# Altium schematic symbol library Apalis Evaluation Board.SchLib: 310 symbols (part 2 of 3)
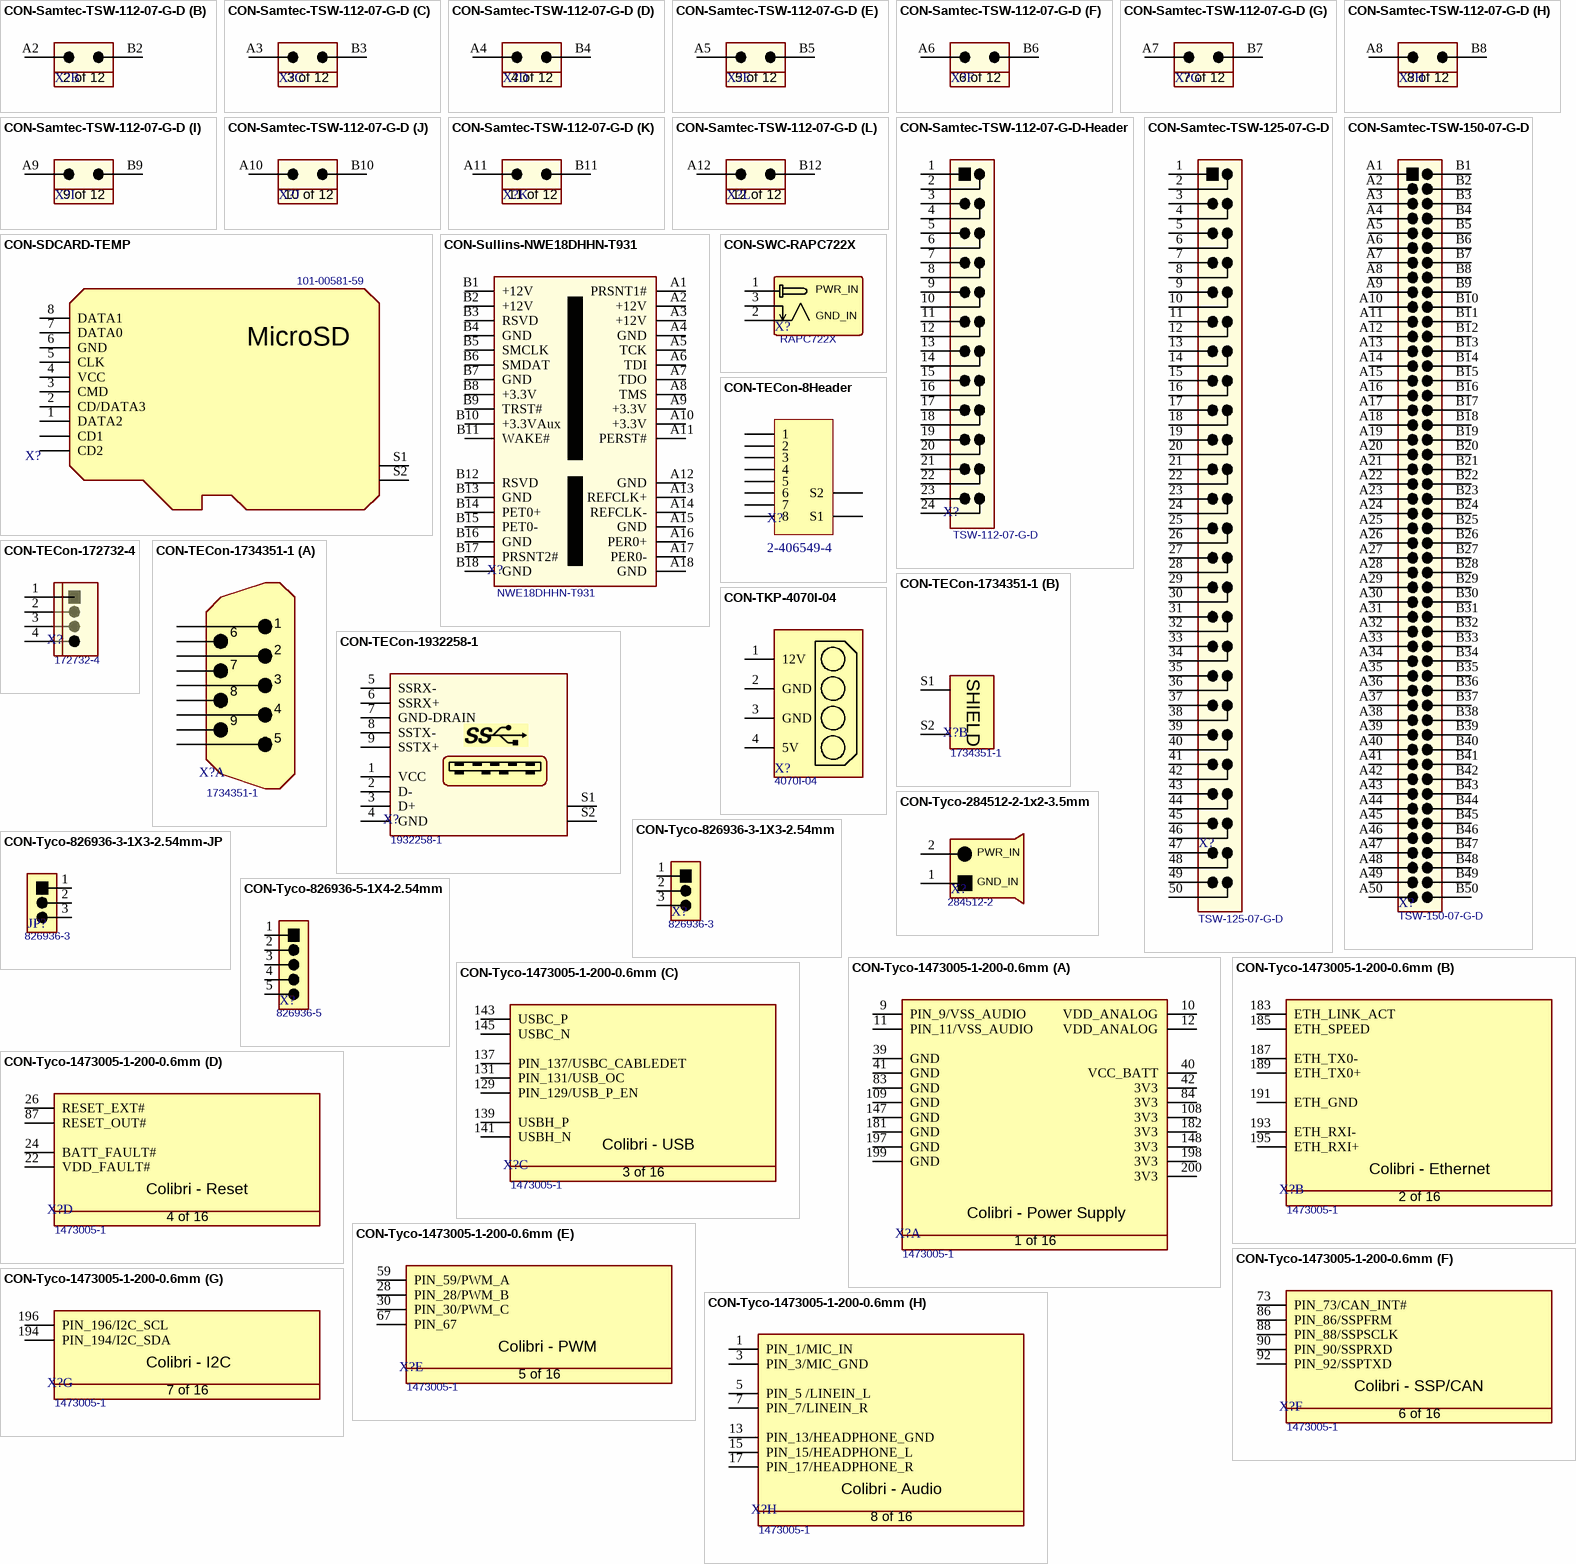
[diagram p21: symbols CON-Samtec-TSW-112-07-G-D to CON-Tyco-1473005-1-200-0.6mm]

## CON-SDCARD-TEMP
designator X?, comment Manufacturer Part No.: 101-00581-59  (hidden comment: MicroSD Holder)
Micro SD Holder Push Push CD; Manufacturer Name: Ampenol; No. of ways: 9
footprint T_SD_CARD_TEMP
pins: 1 DATA2 (power), 2 CD/DATA3, 3 CMD, 4 VCC, 5 CLK (power), 6 GND (power), 7 DATA0 (power), 8 DATA1 (power), CD1 (power), CD2 (power), S1 S, S2 S
text: MicroSD

## CON-Sullins-NWE18DHHN-T931
designator X?, comment NWE18DHHN-T931
PCI EXPRESS 36POS; Manufacturer Name: Sullins; No. of ways: 36; Manufacturer Part No.: NWE18DHHN-T931
footprint T_Sullins_NWE18DHHN-T931 (PCIe X1 Slot)
pins: A1 PRSNT1#, A2 +12V, A3 +12V, A4 GND, A5 TCK, A6 TDI, A7 TDO, A8 TMS, A9 +3.3V, A10 +3.3V, A11 PERST#, A12 GND, A13 REFCLK+, A14 REFCLK-, A15 GND, A16 PER0+, A17 PER0-, A18 GND, B1 +12V, B2 +12V, B3 RSVD, B4 GND, B5 SMCLK, B6 SMDAT, B7 GND, B8 +3.3V, B9 TRST#, B10 +3.3VAux, B11 WAKE#, B12 RSVD, B13 GND, B14 PET0+, B15 PET0-, B16 GND, B17 PRSNT2#, B18 GND

## CON-SWC-RAPC722X
designator X?, comment RAPC722X
Power Jack; Manufacturer Name: SWC; Manufacturer Part No.: RAPC722X
footprint T_DCJ20-0014TB-L (Header, 1x2 Pins, 2.54 mm pitch, male)
pins: 1 GND_IN, 2 PWR_IN, 3 PWR_IN

## CON-TECon-8Header
designator X?, comment 2-406549-4
网口
footprint RJ45卡口朝上 (泰科)
pins: 1, 2, 3, 4, 5, 6, 7, 8, S1, S2

## CON-TECon-172732-4
designator X?, comment 172732-4
Header 4 pos Vert Kink Pin; Manufacturer Name: TE Connectivity; No. of ways: 4; Manufacturer Part No.: 172732-4
footprint T_TE_172732-4 (Header vertical with kink, 1x4 Pins, 2.54mm pitch)
pins: 1 12V (power), 2 GND, 3 GND, 4 5V (power)

## CON-TECon-1734351-1
designator X?, comment 1734351-1
9 pin male D-SUB connector; Manufacturer Name: TE Connectivity; No. of ways: 9; Manufacturer Part No.: 1734351-1
footprint T_TECon_1734351-1 (9 pin male D-SUB connector)
part A pins: 1 DCD, 2 RXD, 3 TXD, 4 DTR, 5 GND, 6 DSR, 7 RTS, 8 CTS, 9 RI
part B pins: S1 SHIELD, S2 SHIELD

## CON-TECon-1932258-1
designator X?, comment 1932258-1
USB 3.0, Type A; Manufacturer Name: TE Connectivity; No. of ways: 9; Manufacturer Part No.: 1932258-1
footprint T_TE_1932258-1 (USB 3.0, Type A)
pins: 1 VCC (power), 2 D-, 3 D+, 4 GND (power), 5 SSRX- (power), 6 SSRX+ (power), 7 GND-DRAIN (power), 8 SSTX- (power), 9 SSTX+ (power), S1 SHIELD, S2 SHIELD

## CON-TKP-4070I-04
designator X?, comment 4070I-04
Molex Power  OUT Connector; Manufacturer Name: TKP; Pitch: 5.08mm; No. of ways: 4; Manufacturer Part No.: 4070I-04
footprint T_TKP_4070I-04 (Molex Power OUT connector)
pins: 1 12V, 2 GND, 3 GND, 4 5V

## CON-Tyco-284512-2-1x2-3.5mm
designator X?, comment 284512-2
Power Connector; Manufacturer Name: Tyco; No. of ways: 1x2; Pitch: 3.5mm; Manufacturer Part No.: 284512-2
footprint T_TYCO_284512-2 (Power Connector 3.5mm)
pins: 1 GND_IN, 2 PWR_IN

## CON-Tyco-826936-3-1X3-2.54mm
designator X?, comment 826936-3
Header, 3-Pin; Manufacturer Name: Tyco; No. of ways: 1X3; Pitch: 2.54mm; Manufacturer Part No.: 826936-3
footprint T_TYCO_826936-3 (Connector; Header; 3 Position)
pins: 1, 2, 3

## CON-Tyco-826936-3-1X3-2.54mm-JP
designator JP?, comment 826936-3
Jumper, 3-Pin; Manufacturer Name: Tyco; No. of ways: 1X3; Pitch: 2.54mm; Manufacturer Part No.: 826936-3
footprint T_TYCO_826936-3 (Connector; Header; 3 Position)
pins: 1, 2, 3

## CON-Tyco-826936-5-1X4-2.54mm
designator X?, comment 826936-5
Header, 5-Pin; Manufacturer Name: Tyco; No. of ways: 1X5; Pitch: 2.54mm; Manufacturer Part No.: 826936-5
footprint T_TYCO_826936-5 (Connector, Header, 4 Position, 2.54mm pitch)
pins: 1, 2, 3, 4, 5

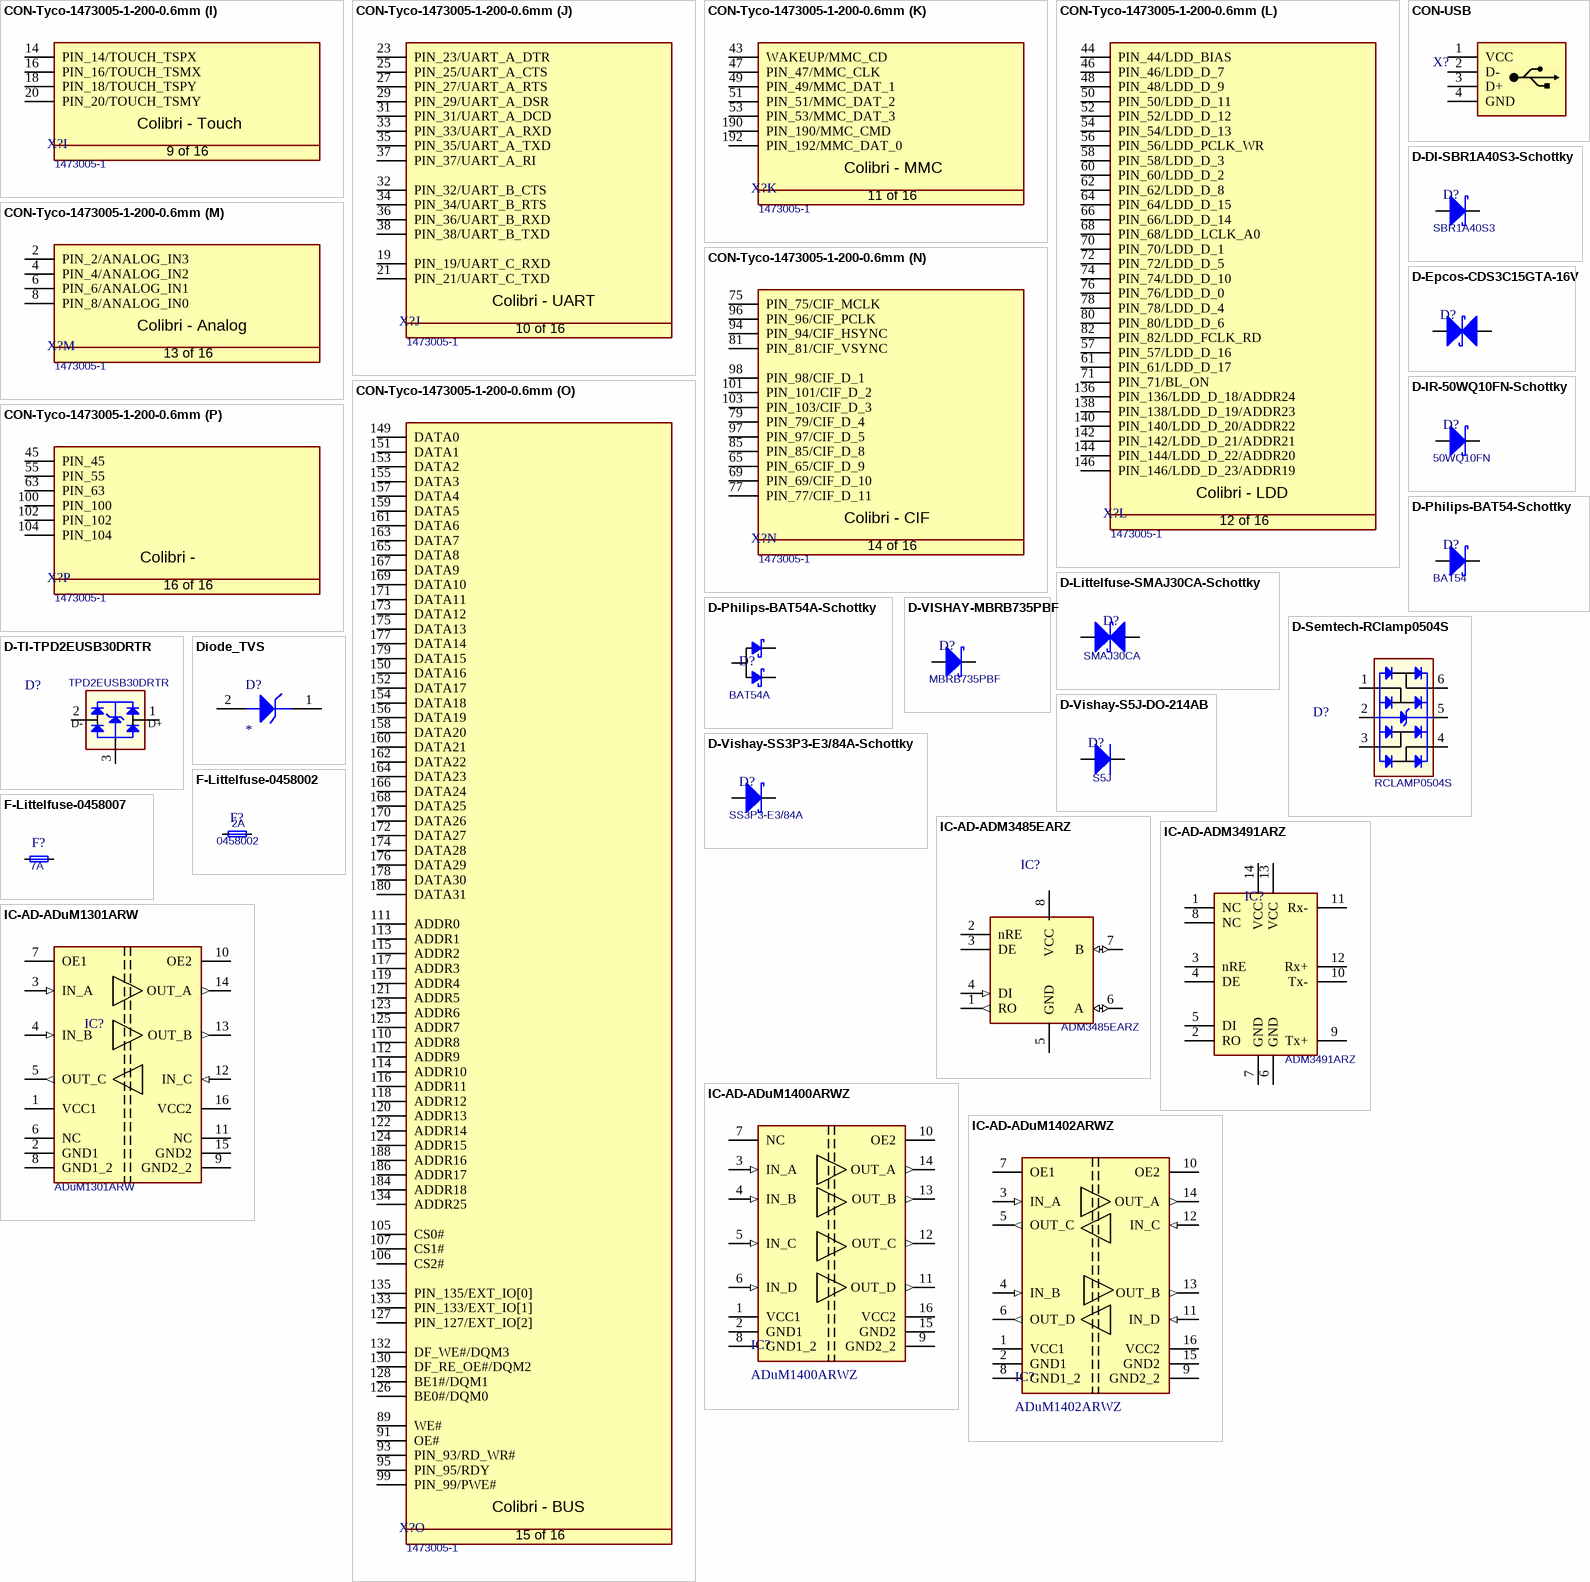
[diagram p14: symbols CON-Tyco-1473005-1-200-0.6mm to IC-AD-ADuM1402ARWZ]

## CON-Tyco-1473005-1-200-0.6mm
designator X?  Manufacturer Part No.: 1473005-1  (hidden comment: CON-Tyco-1473005-1-200-0.6mm)
SODIMM Connector; Manufacturer Name: Tyco; No. of ways: 200
footprint T_Tyco_1473005-1 (SODIMM Connector)
part A pins: 9 PIN_9/VSS_AUDIO, 10 VDD_ANALOG, 11 PIN_11/VSS_AUDIO, 12 VDD_ANALOG, 39 GND (power), 40 VCC_BATT (power), 41 GND (power), 42 3V3 (power), 83 GND (power), 84 3V3 (power), 108 3V3, 109 GND (power), 147 GND (power), 148 3V3, 181 GND (power), 182 3V3 (power), 197 GND (power), 198 3V3 (power), 199 GND (power), 200 3V3 (power)
part B pins: 183 ETH_LINK_ACT, 185 ETH_SPEED, 187 ETH_TX0-, 189 ETH_TX0+, 191 ETH_GND, 193 ETH_RXI-, 195 ETH_RXI+
part C pins: 129 PIN_129/USB_P_EN, 131 PIN_131/USB_OC, 137 PIN_137/USBC_CABLEDET, 139 USBH_P, 141 USBH_N, 143 USBC_P, 145 USBC_N
part D pins: 22 VDD_FAULT#, 24 BATT_FAULT#, 26 RESET_EXT#, 87 RESET_OUT#
part E pins: 28 PIN_28/PWM_B, 30 PIN_30/PWM_C, 59 PIN_59/PWM_A, 67 PIN_67
part F pins: 73 PIN_73/CAN_INT#, 86 PIN_86/SSPFRM, 88 PIN_88/SSPSCLK, 90 PIN_90/SSPRXD, 92 PIN_92/SSPTXD
part G pins: 194 PIN_194/I2C_SDA, 196 PIN_196/I2C_SCL
part H pins: 1 PIN_1/MIC_IN, 3 PIN_3/MIC_GND, 5 PIN_5 /LINEIN_L, 7 PIN_7/LINEIN_R, 13 PIN_13/HEADPHONE_GND, 15 PIN_15/HEADPHONE_L, 17 PIN_17/HEADPHONE_R
part I pins: 14 PIN_14/TOUCH_TSPX, 16 PIN_16/TOUCH_TSMX, 18 PIN_18/TOUCH_TSPY, 20 PIN_20/TOUCH_TSMY
part J pins: 19 PIN_19/UART_C_RXD, 21 PIN_21/UART_C_TXD, 23 PIN_23/UART_A_DTR, 25 PIN_25/UART_A_CTS, 27 PIN_27/UART_A_RTS, 29 PIN_29/UART_A_DSR, 31 PIN_31/UART_A_DCD, 32 PIN_32/UART_B_CTS, 33 PIN_33/UART_A_RXD, 34 PIN_34/UART_B_RTS, 35 PIN_35/UART_A_TXD, 36 PIN_36/UART_B_RXD, 37 PIN_37/UART_A_RI, 38 PIN_38/UART_B_TXD
part K pins: 43 WAKEUP/MMC_CD, 47 PIN_47/MMC_CLK, 49 PIN_49/MMC_DAT_1, 51 PIN_51/MMC_DAT_2, 53 PIN_53/MMC_DAT_3, 190 PIN_190/MMC_CMD, 192 PIN_192/MMC_DAT_0
part L pins: 44 PIN_44/LDD_BIAS, 46 PIN_46/LDD_D_7, 48 PIN_48/LDD_D_9, 50 PIN_50/LDD_D_11, 52 PIN_52/LDD_D_12, 54 PIN_54/LDD_D_13, 56 PIN_56/LDD_PCLK_WR, 57 PIN_57/LDD_D_16, 58 PIN_58/LDD_D_3, 60 PIN_60/LDD_D_2, 61 PIN_61/LDD_D_17, 62 PIN_62/LDD_D_8, 64 PIN_64/LDD_D_15, 66 PIN_66/LDD_D_14, 68 PIN_68/LDD_LCLK_A0, 70 PIN_70/LDD_D_1, 71 PIN_71/BL_ON, 72 PIN_72/LDD_D_5, 74 PIN_74/LDD_D_10, 76 PIN_76/LDD_D_0, 78 PIN_78/LDD_D_4, 80 PIN_80/LDD_D_6, 82 PIN_82/LDD_FCLK_RD, 136 PIN_136/LDD_D_18/ADDR24, 138 PIN_138/LDD_D_19/ADDR23, 140 PIN_140/LDD_D_20/ADDR22, 142 PIN_142/LDD_D_21/ADDR21, 144 PIN_144/LDD_D_22/ADDR20, 146 PIN_146/LDD_D_23/ADDR19
part M pins: 2 PIN_2/ANALOG_IN3, 4 PIN_4/ANALOG_IN2, 6 PIN_6/ANALOG_IN1, 8 PIN_8/ANALOG_IN0
part N pins: 65 PIN_65/CIF_D_9, 69 PIN_69/CIF_D_10, 75 PIN_75/CIF_MCLK, 77 PIN_77/CIF_D_11, 79 PIN_79/CIF_D_4, 81 PIN_81/CIF_VSYNC, 85 PIN_85/CIF_D_8, 94 PIN_94/CIF_HSYNC, 96 PIN_96/CIF_PCLK, 97 PIN_97/CIF_D_5, 98 PIN_98/CIF_D_1, 101 PIN_101/CIF_D_2, 103 PIN_103/CIF_D_3
part O pins: 89 WE#, 91 OE#, 93 PIN_93/RD_WR#, 95 PIN_95/RDY, 99 PIN_99/PWE#, 105 CS0#, 106 CS2#, 107 CS1#, 110 ADDR8, 111 ADDR0, 112 ADDR9, 113 ADDR1, 114 ADDR10, 115 ADDR2, 116 ADDR11, 117 ADDR3, 118 ADDR12, 119 ADDR4, 120 ADDR13, 121 ADDR5, 122 ADDR14, 123 ADDR6, 124 ADDR15, 125 ADDR7, 126 BE0#/DQM0, 127 PIN_127/EXT_IO[2], 128 BE1#/DQM1, 130 DF_RE_OE#/DQM2, 132 DF_WE#/DQM3, 133 PIN_133/EXT_IO[1], 134 ADDR25, 135 PIN_135/EXT_IO[0], 149 DATA0, 150 DATA16, 151 DATA1, 152 DATA17, 153 DATA2, 154 DATA18, 155 DATA3, 156 DATA19, 157 DATA4, 158 DATA20, 159 DATA5, 160 DATA21, 161 DATA6, 162 DATA22, 163 DATA7, 164 DATA23, 165 DATA8, 166 DATA24, 167 DATA9, 168 DATA25, 169 DATA10, 170 DATA26, 171 DATA11, 172 DATA27, 173 DATA12, 174 DATA28, 175 DATA13, 176 DATA29, 177 DATA14, 178 DATA30, 179 DATA15, 180 DATA31, 184 ADDR18, 186 ADDR17, 188 ADDR16
part P pins: 45 PIN_45, 55 PIN_55, 63 PIN_63, 100 PIN_100, 102 PIN_102, 104 PIN_104
part A text: Colibri - Power Supply; 1 of 16
part B text: Colibri - Ethernet; 2 of 16
part C text: Colibri - USB; 3 of 16
part D text: Colibri - Reset; 4 of 16
part E text: Colibri - PWM; 5 of 16
part F text: Colibri - SSP/CAN; 6 of 16
part G text: Colibri - I2C; 7 of 16
part H text: Colibri - Audio; 8 of 16
part I text: Colibri - Touch; 9 of 16
part J text: Colibri - UART; 10 of 16
part K text: Colibri - MMC; 11 of 16
part L text: Colibri - LDD; 12 of 16
part M text: Colibri - Analog; 13 of 16
part N text: Colibri - CIF; 14 of 16
part O text: Colibri - BUS; 15 of 16
part P text: Colibri -; 16 of 16

## CON-USB
designator X?
USB  Connector; Manufacturer Name: FCI; Manufacturer Part No.: 73725-0110BLF; No. of ways: 4
pins: 1 VCC (power), 2 D-, 3 D+, 4 GND (power)

## D-DI-SBR1A40S3-Schottky
designator D?  Manufacturer Part No.: SBR1A40S3
SUPER BARRIER RECTIFIER Schottky Diode; Manufacturer Name: Diodes Incorporated
footprint TO228P1003X238-3N
pins: 1, 3

## D-Epcos-CDS3C15GTA-16V
designator D?
Bidirectional ESD protection; Manufacturer Name: Epcos; Manufacturer Part No.: CDS3C15GTA
footprint T_Epcos_CDS3C15GTA (Bidirectional ESD Protection)
pins: P1 GND, P2 I/O line

## D-IR-50WQ10FN-Schottky
designator D?  Manufacturer Part No.: 50WQ10FN
Schottky Diode; Manufacturer Name: International Rectifier
footprint TO228P1003X238-3N
pins: 1, 3

## D-Littelfuse-SMAJ30CA-Schottky
designator D?  Manufacturer Part No.: SMAJ30CA
Bidirectional ESD protection; Manufacturer Name: Littelfuse
footprint T_LITTLEFUSE_SMAJ30CA (Bidirectional ESD protection)
pins: 1 Cathode, 2 Anode

## D-Philips-BAT54-Schottky
designator D?, comment BAT54
BAT54 Schottky Diode; Manufacturer Name: Philips; Manufacturer Part No.: BAT54
footprint SOT95P230X110-3N
pins: 1, 3

## D-Philips-BAT54A-Schottky
designator D?, comment BAT54A
BAT54A Schottky Diode; Manufacturer Name: Philips; Manufacturer Part No.: BAT54A
footprint SOT95P230X110-3N
pins: 1, 2, 3

## D-Semtech-RClamp0504S
designator D?, comment RCLAMP0504S
TVS Array low cap; Manufacturer Name: Semtech; Manufacturer Part No.: RCLAMP0504S
footprint T_SOT95P285X90-6N (Footprint not found)
pins: 1 (power), 2 (power), 3 (power), 4 (power), 5 (power), 6 (power)

## D-TI-TPD2EUSB30DRTR
designator D?, comment TPD2EUSB30DRTR
2 Channel Protection for Super Speed USB3.0; Manufacturer Name: TI; Manufacturer Part No.: TPD2EUSB30DRTR
footprint T_TI_TPD2EUSB30DRTR (2 CHANNEL PROTECTION SOLUTION FOR SUPER-SPEED)
pins: 1 D+ (power), 2 D- (power), 3 (power)

## D-VISHAY-MBRB735PBF
designator D?, comment MBRB735PBF
MBRB735PBF Schottky Diode; Manufacturer Name: Vishay; Manufacturer Part No.: MBRB735PBF
footprint T_VISHAY_MBRB735PBF
pins: 2, 3

## D-Vishay-S5J-DO-214AB
designator D?, comment S5J
Vishay S5J Rectifier; Manufacturer Name: Vishay; Manufacturer Part No.: S5J
footprint T_VISHAY_S5J (5A Rectifier)
pins: 1, 2

## D-Vishay-SS3P3-E3/84A-Schottky
designator D?, comment Manufacturer Part No.: SS3P3-E3/84A  (hidden comment: SS3P3)
SS3P3-E3/84A Schottky Diode; Manufacturer Name: Vishay
footprint T_VISHAY_SS3P3 (Schottky Barrier Rectifiers. 2-Leads, Body 3.7x1.88mm)
pins: 1, 2

## Diode_TVS
designator D?
TVS Diode
footprint LC-SOD-323
pins: 1 K, 2 A

## F-Littelfuse-0458002
designator F?, comment Manufacturer Part No.: 0458002  (hidden comment: 2A)
Fuse 2A Fast; Manufacturer Name: Littelfuse; Value: 2A
footprint T_Littelfuse_0458 (Fast Fuse)
pins: 1, 2

## F-Littelfuse-0458007
designator F?, comment 7A
Fuse 7A Fast; Manufacturer Part No.: 0458007; Manufacturer Name: Littelfuse; Value: 7A
footprint T_Littelfuse_0458 (Fast Fuse)
pins: 1, 2

## IC-AD-ADM3485EARZ
designator IC?, comment ADM3485EARZ
ADM3485EARZ RS-485/RS-422 transceiver; Manufacturer Name: Analog Devices; Manufacturer Part No.: ADM3485EARZ
pins: 1 RO (out), 2 nRE, 3 DE, 4 DI (in), 5 GND (power), 6 A (io), 7 B (io), 8 VCC (power)

## IC-AD-ADM3491ARZ
designator IC?, comment ADM3491ARZ
ADM3491ARZ RS-485/RS-422 transceiver; Manufacturer Name: Analog Devices; Manufacturer Part No.: ADM3491ARZ
footprint SOIC127P600X175-14N (SOIC 14 pin)
pins: 1 NC, 2 RO, 3 nRE, 4 DE, 5 DI, 6 GND, 7 GND, 8 NC, 9 Tx+, 10 Tx-, 11 Rx-, 12 Rx+, 13 VCC, 14 VCC

## IC-AD-ADuM1301ARW
designator IC?, comment ADuM1301ARW
Digital Isolator; Manufacturer Name: Analog Devices; Manufacturer Part No.: ADuM1301ARW
footprint T_AD_ADuM1300ARW (SOIC _W 16 pin)
pins: 1 VCC1, 2 GND1 (power), 3 IN_A (in), 4 IN_B (in), 5 OUT_C (out), 6 NC, 7 OE1, 8 GND1_2 (power), 9 GND2_2 (power), 10 OE2, 11 NC, 12 IN_C (in), 13 OUT_B (out), 14 OUT_A (out), 15 GND2 (power), 16 VCC2

## IC-AD-ADuM1400ARWZ
designator IC?, comment ADuM1400ARWZ
Digital Isolator 4IN
footprint T_AD_ADuM1300ARW (SOIC _W 16 pin)
pins: 1 VCC1, 2 GND1 (power), 3 IN_A (in), 4 IN_B (in), 5 IN_C (in), 6 IN_D (in), 7 NC, 8 GND1_2 (power), 9 GND2_2 (power), 10 OE2, 11 OUT_D (out), 12 OUT_C (out), 13 OUT_B (out), 14 OUT_A (out), 15 GND2 (power), 16 VCC2

## IC-AD-ADuM1402ARWZ
designator IC?, comment ADuM1402ARWZ
Digital Isolator
footprint T_AD_ADuM1300ARW (SOIC _W 16 pin)
pins: 1 VCC1, 2 GND1 (power), 3 IN_A (in), 4 IN_B (in), 5 OUT_C (out), 6 OUT_D (out), 7 OE1, 8 GND1_2 (power), 9 GND2_2 (power), 10 OE2, 11 IN_D (in), 12 IN_C (in), 13 OUT_B (out), 14 OUT_A (out), 15 GND2 (power), 16 VCC2

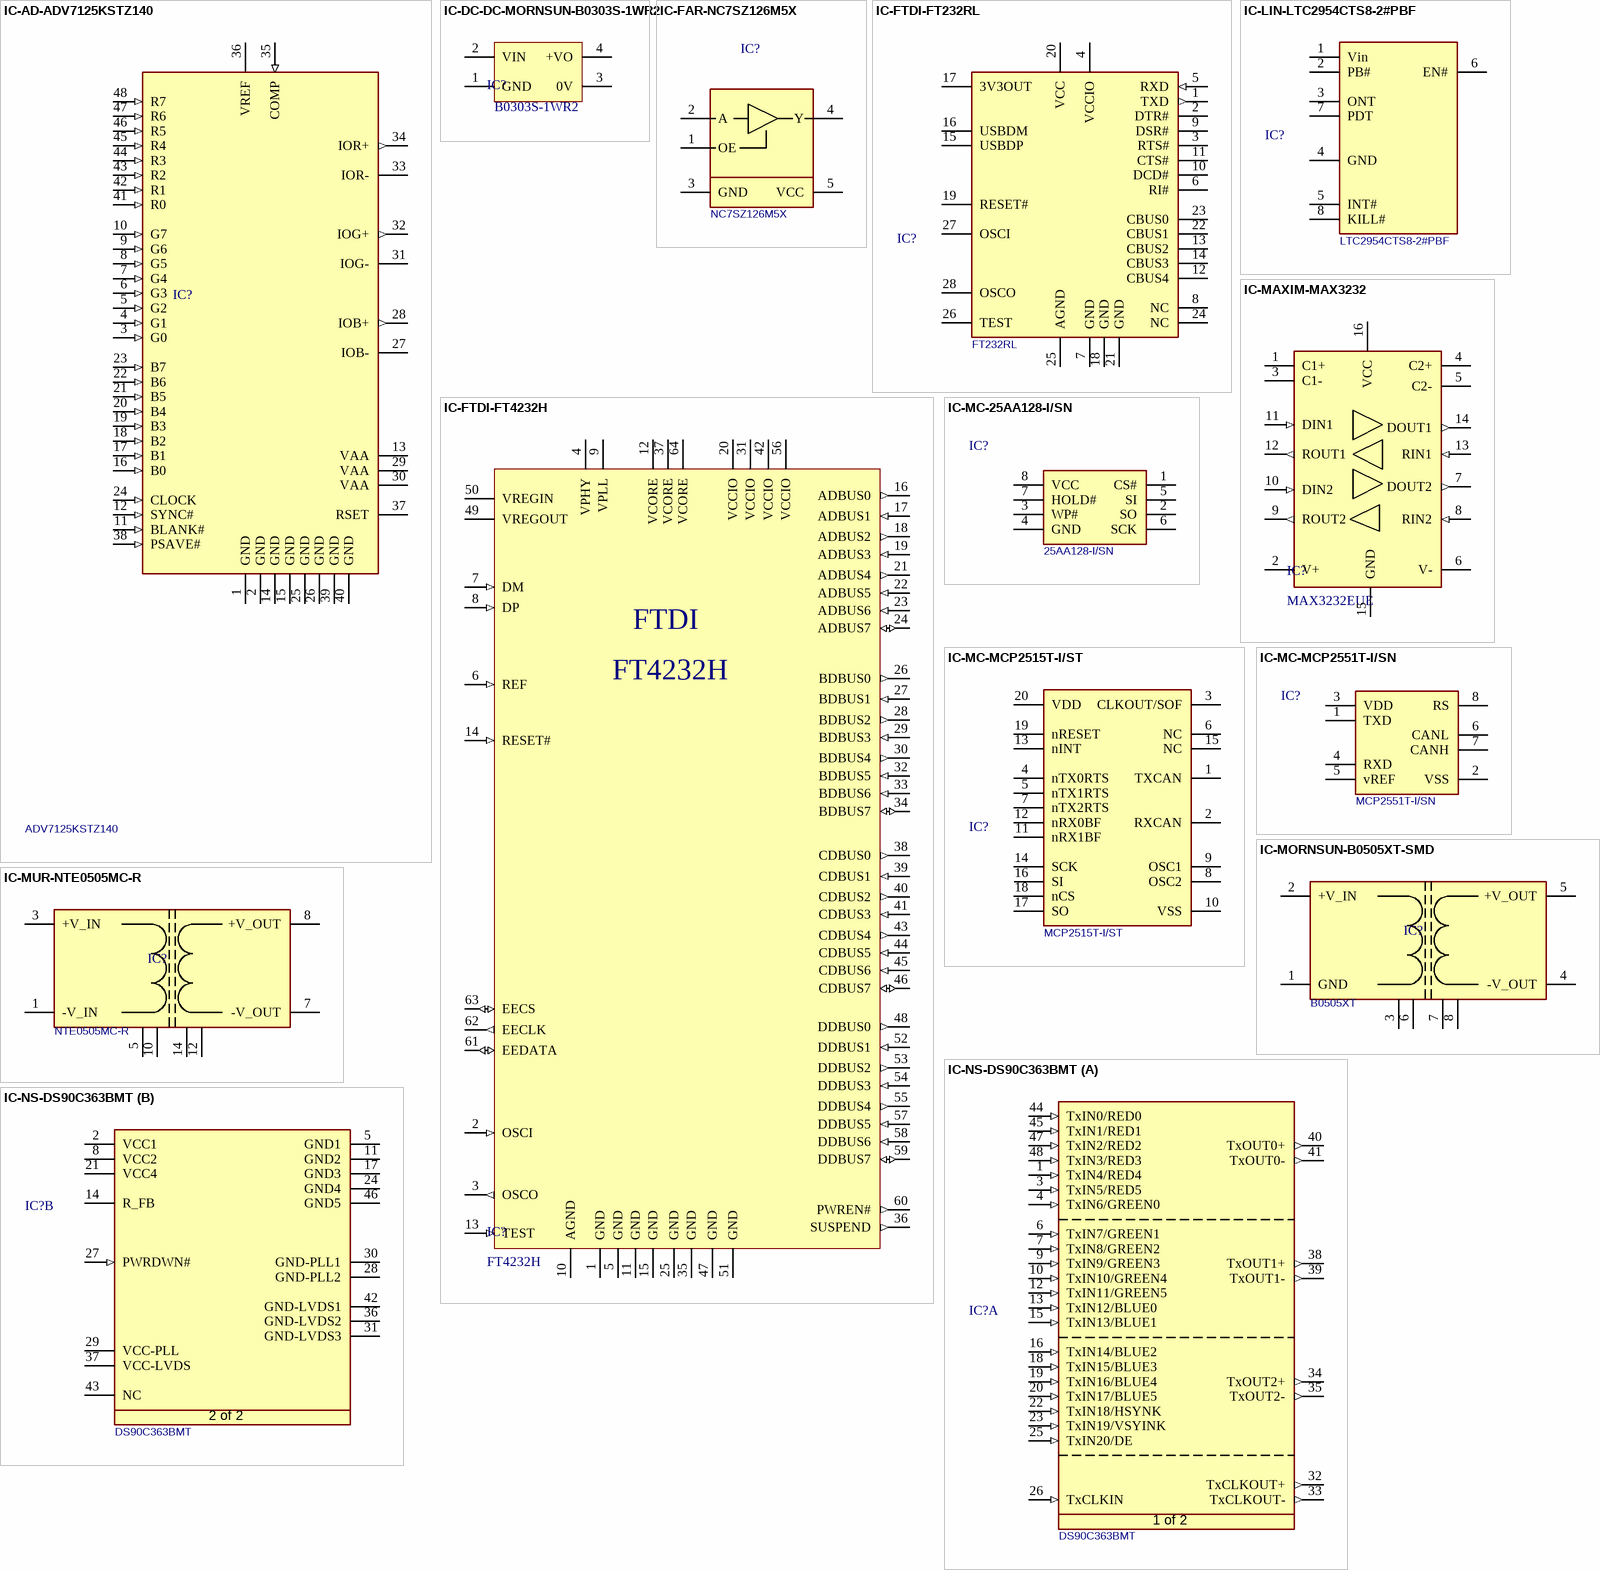
[diagram p15: symbols IC-AD-ADV7125KSTZ140 to IC-NS-DS90C363BMT]

## IC-AD-ADV7125KSTZ140
designator IC?, comment ADV7125KSTZ140
Video DAC 8bit 140MHz; Manufacturer Name: Analog Devices; Manufacturer Part No.: ADV7125KSTZ140
footprint QFP50P900X900X120-48N
pins: 1 GND (power), 2 GND (power), 3 G0 (in), 4 G1 (in), 5 G2 (in), 6 G3 (in), 7 G4 (in), 8 G5 (in), 9 G6 (in), 10 G7 (in), 11 BLANK# (in), 12 SYNC# (in), 13 VAA (power), 14 GND (power), 15 GND (power), 16 B0 (in), 17 B1 (in), 18 B2 (in), 19 B3 (in), 20 B4 (in), 21 B5 (in), 22 B6 (in), 23 B7 (in), 24 CLOCK (in), 25 GND (power), 26 GND (power), 27 IOB- (power), 28 IOB+ (out), 29 VAA (power), 30 VAA (power), 31 IOG- (power), 32 IOG+ (out), 33 IOR- (power), 34 IOR+ (out), 35 COMP (in), 36 VREF (power), 37 RSET, 38 PSAVE# (in), 39 GND (power), 40 GND (power), 41 R0 (in), 42 R1 (in), 43 R2 (in), 44 R3 (in), 45 R4 (in), 46 R5 (in), 47 R6 (in), 48 R7 (in)

## IC-DC-DC-MORNSUN-B0303S-1WR2
designator IC?, comment B0303S-1WR2
MORNSUN DC-C 3.3V To 3.3V; Manufacturer Name: MORNSUN; Manufacturer Part NO.: B0303S-1WR2
pins: 1 GND (power), 2 VIN (power), 3 0V (power), 4 +VO (power)

## IC-FAR-NC7SZ126M5X
designator IC?, comment NC7SZ126M5X
NC7SZ126M5X  Buffer Three-State Output; Manufacturer Name: Fairchild Semiconductor; Manufacturer Part No.: NC7SZ126M5X
footprint SOT95P279X142-5N
pins: 1 OE, 2 A, 3 GND, 4 Y, 5 VCC

## IC-FTDI-FT232RL
designator IC?, comment FT232RL
FT232R USB TO UART; Manufacturer Name: FTDI; Manufacturer Part No.: FT232RL
footprint T_FTDI_FT232RL (28-Pin SSOP 0.65 mm Pitch)
pins: 1 TXD (out), 2 DTR#, 3 RTS#, 4 VCCIO, 5 RXD (in), 6 RI#, 7 GND, 8 NC, 9 DSR#, 10 DCD#, 11 CTS#, 12 CBUS4, 13 CBUS2, 14 CBUS3, 15 USBDP, 16 USBDM, 17 3V3OUT, 18 GND, 19 RESET#, 20 VCC, 21 GND, 22 CBUS1, 23 CBUS0, 24 NC, 25 AGND, 26 TEST, 27 OSCI, 28 OSCO

## IC-FTDI-FT4232H
designator IC?, comment FT4232H
Quad High Speed USB to Multipurpose UART
pins: 1 GND (power), 2 OSCI (in), 3 OSCO (out), 4 VPHY (power), 5 GND (power), 6 REF (in), 7 DM (in), 8 DP (in), 9 VPLL (power), 10 AGND (power), 11 GND (power), 12 VCORE (power), 13 TEST (in), 14 RESET# (in), 15 GND (power), 16 ADBUS0 (out), 17 ADBUS1 (in), 18 ADBUS2 (out), 19 ADBUS3 (in), 20 VCCIO (power), 21 ADBUS4 (out), 22 ADBUS5 (in), 23 ADBUS6 (in), 24 ADBUS7 (io), 25 GND (power), 26 BDBUS0 (out), 27 BDBUS1 (in), 28 BDBUS2 (out), 29 BDBUS3 (in), 30 BDBUS4 (out), 31 VCCIO (power), 32 BDBUS5 (in), 33 BDBUS6 (in), 34 BDBUS7 (io), 35 GND, 36 SUSPEND (out), 37 VCORE (power), 38 CDBUS0 (out), 39 CDBUS1 (in), 40 CDBUS2 (out), 41 CDBUS3 (in), 42 VCCIO (power), 43 CDBUS4 (out), 44 CDBUS5 (in), 45 CDBUS6 (in), 46 CDBUS7 (io), 47 GND (power), 48 DDBUS0 (out), 49 VREGOUT (power), 50 VREGIN (power), 51 GND (power), 52 DDBUS1 (in), 53 DDBUS2 (out), 54 DDBUS3 (in), 55 DDBUS4 (out), 56 VCCIO (power), 57 DDBUS5 (in), 58 DDBUS6 (in), 59 DDBUS7 (io), 60 PWREN# (out), 61 EEDATA (io), 62 EECLK (out), 63 EECS (io), 64 VCORE (power)
text: FTDI

## IC-LIN-LTC2954CTS8-2#PBF
designator IC?, comment LTC2954CTS8-2#PBF
Push Button On/Off Controller; Manufacturer Name: Linear; Manufacturer Part No.: LTC2954CTS8-2#PBF
footprint T_LINEAR_LTC2954CTS8-2#PBF
pins: 1 Vin, 2 PB#, 3 ONT, 4 GND, 5 INT#, 6 EN#, 7 PDT, 8 KILL#

## IC-MAXIM-MAX3232
designator IC?, comment MAX3232EUE
RS232
pins: 1 C1+, 2 V+, 3 C1- (power), 4 C2+, 5 C2- (power), 6 V-, 7 DOUT2 (out), 8 RIN2 (in), 9 ROUT2 (out), 10 DIN2 (in), 11 DIN1 (in), 12 ROUT1 (out), 13 RIN1 (in), 14 DOUT1 (out), 15 GND (power), 16 VCC (power)

## IC-MC-25AA128-I/SN
designator IC?, comment 25AA128-I/SN
128K SPI Bus Serial EEPROM; Manufacturer Name: Microchip; Manufacturer Part No.: 25AA128-I/SN
footprint SOIC127P600X173-8N
pins: 1 CS#, 2 SO, 3 WP#, 4 GND, 5 SI, 6 SCK, 7 HOLD#, 8 VCC

## IC-MC-MCP2515T-I/ST
designator IC?, comment Manufacturer Part No.: MCP2515T-I/ST  (hidden comment: MCP2515)
CAN controller with SPI Interface; Manufacturer Name: Microchip
footprint T_MC_MCP2515T-I/ST (TSSOP20)
pins: 1 TXCAN, 2 RXCAN, 3 CLKOUT/SOF, 4 nTX0RTS, 5 nTX1RTS, 6 NC, 7 nTX2RTS, 8 OSC2, 9 OSC1, 10 VSS (power), 11 nRX1BF, 12 nRX0BF, 13 nINT, 14 SCK, 15 NC, 16 SI, 17 SO, 18 nCS, 19 nRESET, 20 VDD

## IC-MC-MCP2551T-I/SN
designator IC?, comment MCP2551T-I/SN
High speed CAN Transceiver; Manufacturer Name: Microchip; Manufacturer Part No.: MCP2551T-I/SN
footprint SOIC127P600X173-8N
pins: 1 TXD, 2 VSS, 3 VDD, 4 RXD, 5 vREF, 6 CANL, 7 CANH, 8 RS

## IC-MORNSUN-B0505XT-SMD
designator IC?, comment Manufacturer Part No.: B0505XT  (hidden comment: B0505XT-1W)
MORNSUN Isolated DC/DC Converter; Manufacturer Name: Murata
footprint MORNSUN_B0305XT-1W_SMD (MORNSUN Isolated DC/DC converter)
pins: 1 GND (power), 2 +V_IN (power), 3 NC, 4 -V_OUT (power), 5 +V_OUT (power), 6 NC, 7 NC, 8 NC

## IC-MUR-NTE0505MC-R
designator IC?, comment NTE0505MC-R
Isolated DC/DC Converter; Manufacturer Name: Murata; Manufacturer Part No.: NTE0505MC-R
footprint T_MURATA_NTE0505MC-R (Isolated DC/DC converter)
pins: 1 -V_IN (power), 3 +V_IN (power), 5 NC, 7 -V_OUT (power), 8 +V_OUT (power), 10 NC, 12 NC, 14 NC

## IC-NS-DS90C363BMT
designator IC?, comment DS90C363BMT
LVDS Converter; Manufacturer Name: National Semiconductor; Manufacturer Part No.: DS90C363BMT
footprint SOP50P810X120-48N
part A pins: 1 TxIN4/RED4 (in), 3 TxIN5/RED5 (in), 4 TxIN6/GREEN0 (in), 6 TxIN7/GREEN1 (in), 7 TxIN8/GREEN2 (in), 9 TxIN9/GREEN3 (in), 10 TxIN10/GREEN4 (in), 12 TxIN11/GREEN5 (in), 13 TxIN12/BLUE0 (in), 15 TxIN13/BLUE1 (in), 16 TxIN14/BLUE2 (in), 18 TxIN15/BLUE3 (in), 19 TxIN16/BLUE4 (in), 20 TxIN17/BLUE5 (in), 22 TxIN18/HSYNK (in), 23 TxIN19/VSYINK (in), 25 TxIN20/DE (in), 26 TxCLKIN (in), 32 TxCLKOUT+ (out), 33 TxCLKOUT- (out), 34 TxOUT2+ (out), 35 TxOUT2- (out), 38 TxOUT1+ (out), 39 TxOUT1- (out), 40 TxOUT0+ (out), 41 TxOUT0- (out), 44 TxIN0/RED0 (in), 45 TxIN1/RED1 (in), 47 TxIN2/RED2 (in), 48 TxIN3/RED3 (in)
part B pins: 2 VCC1 (power), 5 GND1 (power), 8 VCC2 (power), 11 GND2 (power), 14 R_FB (power), 17 GND3 (power), 21 VCC4 (power), 24 GND4 (power), 27 PWRDWN# (in), 28 GND-PLL2 (power), 29 VCC-PLL (power), 30 GND-PLL1 (power), 31 GND-LVDS3 (power), 36 GND-LVDS2 (power), 37 VCC-LVDS (power), 42 GND-LVDS1 (power), 43 NC, 46 GND5 (power)
part A text: 1 of 2
part B text: 2 of 2

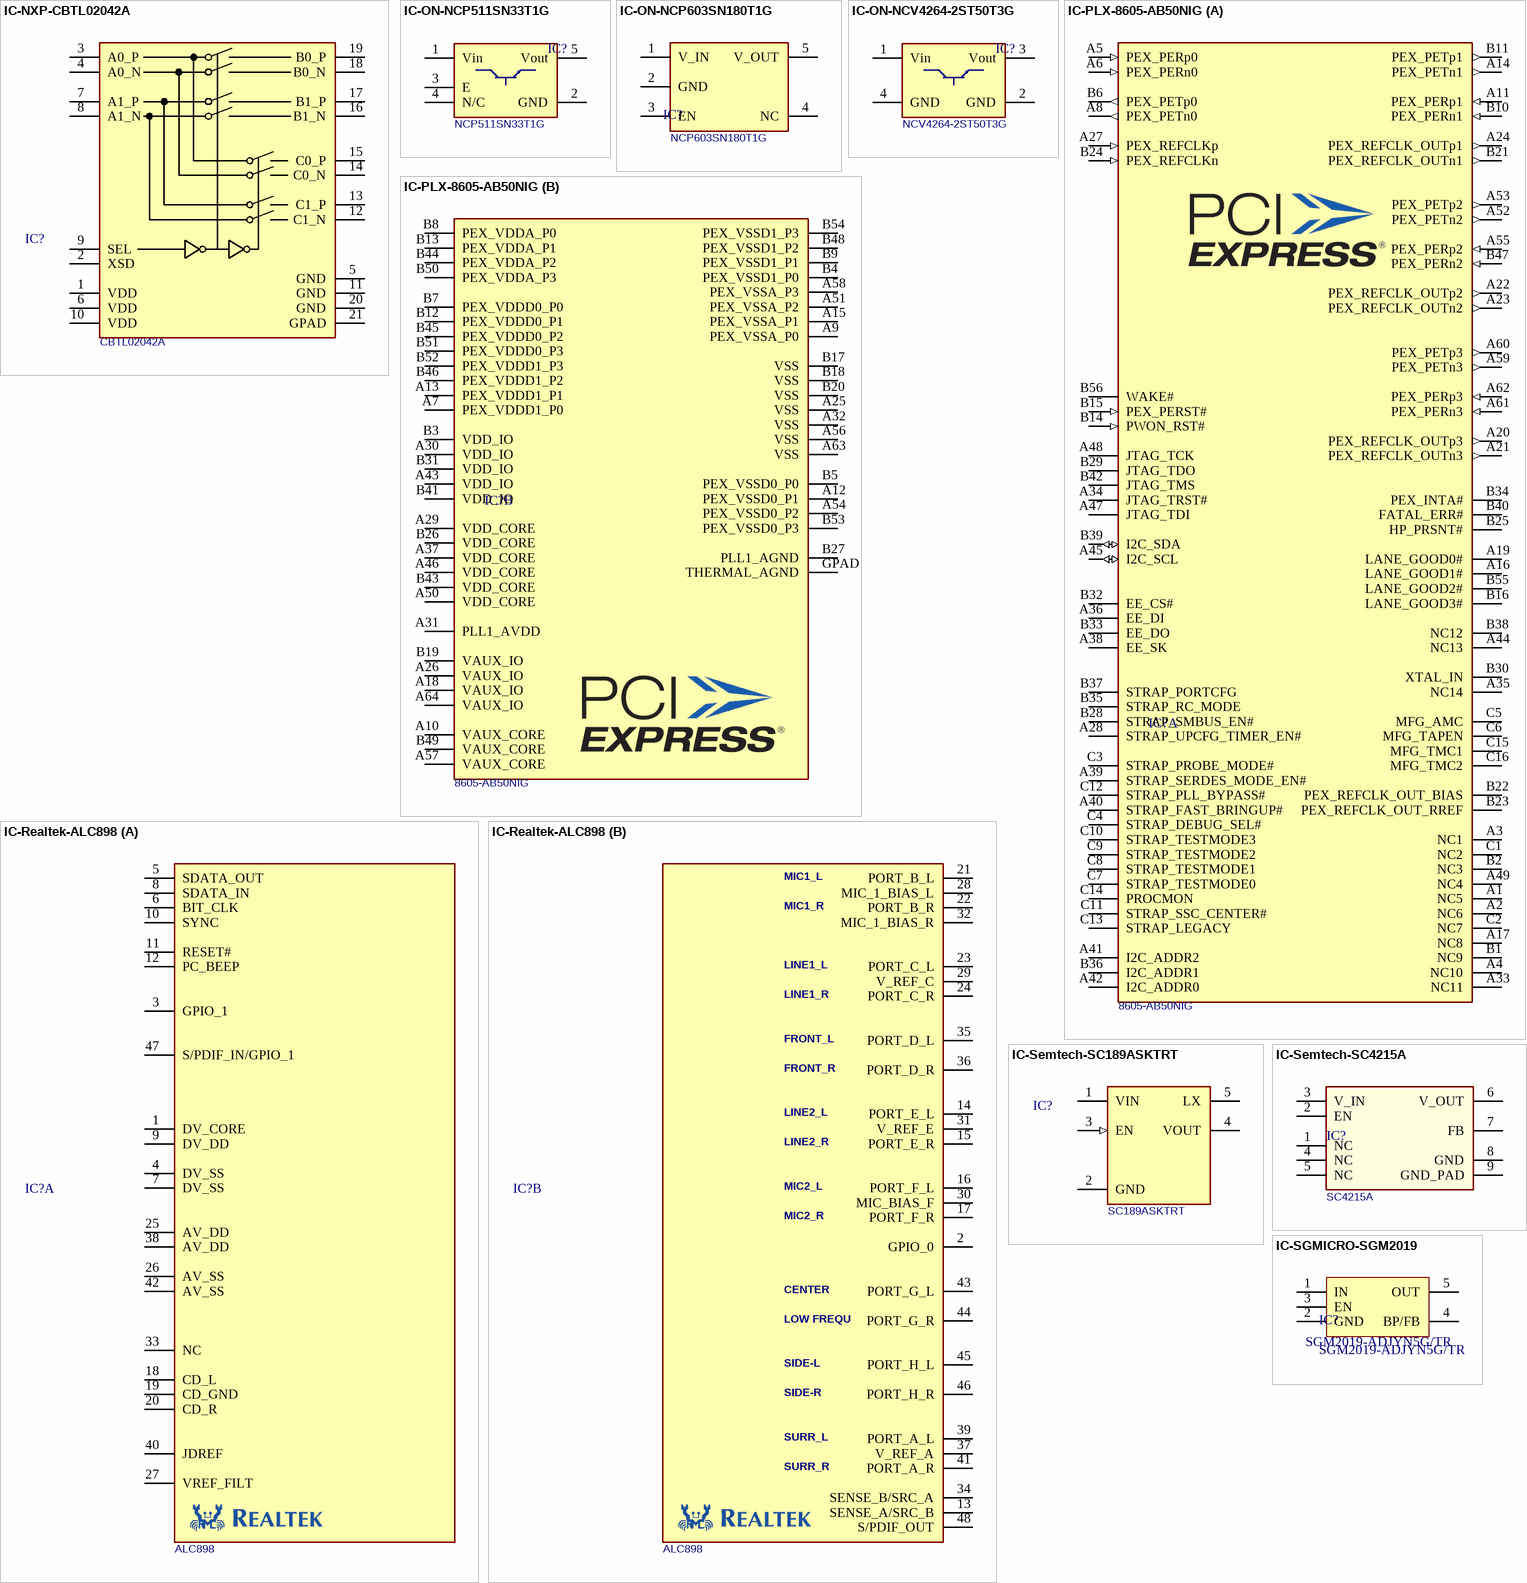
[diagram p16: symbols IC-NXP-CBTL02042A to IC-SGMICRO-SGM2019]

## IC-NXP-CBTL02042A
designator IC?, comment CBTL02042A
Analog Switch CBTL02042A; Manufacturer Name: NXP; Manufacturer Part No.: CBTL02042A
footprint QFN50P250X450X100-20N (QFN, 20-Leads, Body 4.4x2.4mm (max), Pitch 0.50mm, IPC Medium Density)
pins: 1 VDD, 2 XSD, 3 A0_P, 4 A0_N, 5 GND, 6 VDD, 7 A1_P, 8 A1_N, 9 SEL, 10 VDD, 11 GND, 12 C1_N, 13 C1_P, 14 C0_N, 15 C0_P, 16 B1_N, 17 B1_P, 18 B0_N, 19 B0_P, 20 GND, 21 GPAD

## IC-ON-NCP511SN33T1G
designator IC?, comment NCP511SN33T1G
NCP511SN33T1G LDO Regulator; Manufacturer Name: ON Semiconductor; Manufacturer Part No.: NCP511SN33T1G
footprint SOT95P279X142-5N
pins: 1 Vin, 2 GND, 3 E, 4 N/C, 5 Vout

## IC-ON-NCP603SN180T1G
designator IC?, comment NCP603SN180T1G
CMOS LDO Regulator; Manufacturer Name: ON; Manufacturer Part No.: NCP603SN180T1G
footprint T_ON_NCP603SN180T1G (SOT 23)
pins: 1 V_IN (power), 2 GND (power), 3 EN, 4 NC, 5 V_OUT

## IC-ON-NCV4264-2ST50T3G
designator IC?, comment NCV4264-2ST50T3G
NCV4264-2ST50T3G LDO Regulator; Manufacturer Name: ON Semiconductor; Manufacturer Part No.: NCV4264-2ST50T3G
footprint T_ON_NCV4264-2ST50T3G (SO4)
pins: 1 Vin, 2 GND, 3 Vout, 4 GND

## IC-PLX-8605-AB50NIG
designator IC?, comment 8605-AB50NIG
4 Ports 4 Lane PCIe Gen2 switch; Manufacturer Name: PLX; Manufacturer Part No.: 8605-AB50NIG
footprint QFN50P1000X1000X85-137M (Double Row QFN, 137-Leads, Body 10.0x10.0mm (max), Pitch 0.50mm, IPC Low Density)
part A pins: A1 NC5, A2 NC6, A3 NC1, A4 NC10, A5 PEX_PERp0 (in), A6 PEX_PERn0 (in), A8 PEX_PETn0 (out), A11 PEX_PERp1 (in), A14 PEX_PETn1 (out), A16 LANE_GOOD1#, A17 NC8, A19 LANE_GOOD0#, A20 PEX_REFCLK_OUTp3 (out), A21 PEX_REFCLK_OUTn3 (out), A22 PEX_REFCLK_OUTp2 (out), A23 PEX_REFCLK_OUTn2 (out), A24 PEX_REFCLK_OUTp1 (out), A27 PEX_REFCLKp (in), A28 STRAP_UPCFG_TIMER_EN#, A33 NC11, A34 JTAG_TRST#, A35 NC14, A36 EE_DI, A38 EE_SK, A39 STRAP_SERDES_MODE_EN#, A40 STRAP_FAST_BRINGUP#, A41 I2C_ADDR2, A42 I2C_ADDR0, A44 NC13, A45 I2C_SCL (io), A47 JTAG_TDI, A48 JTAG_TCK, A49 NC4, A52 PEX_PETn2 (out), A53 PEX_PETp2 (out), A55 PEX_PERp2 (in), A59 PEX_PETn3 (out), A60 PEX_PETp3 (out), A61 PEX_PERn3 (in), A62 PEX_PERp3 (in), B1 NC9, B2 NC3, B6 PEX_PETp0 (out), B10 PEX_PERn1 (in), B11 PEX_PETp1 (out), B14 PWON_RST# (in), B15 PEX_PERST# (in), B16 LANE_GOOD3#, B21 PEX_REFCLK_OUTn1 (out), B22 PEX_REFCLK_OUT_BIAS, B23 PEX_REFCLK_OUT_RREF, B24 PEX_REFCLKn (in), B25 HP_PRSNT#, B28 STRAP_SMBUS_EN#, B29 JTAG_TDO, B30 XTAL_IN, B32 EE_CS#, B33 EE_DO, B34 PEX_INTA#, B35 STRAP_RC_MODE, B36 I2C_ADDR1, B37 STRAP_PORTCFG, B38 NC12, B39 I2C_SDA (io), B40 FATAL_ERR#, B42 JTAG_TMS, B47 PEX_PERn2 (in), B55 LANE_GOOD2#, B56 WAKE#, C1 NC2, C2 NC7, C3 STRAP_PROBE_MODE#, C4 STRAP_DEBUG_SEL#, C5 MFG_AMC, C6 MFG_TAPEN, C7 STRAP_TESTMODE0, C8 STRAP_TESTMODE1, C9 STRAP_TESTMODE2, C10 STRAP_TESTMODE3, C11 STRAP_SSC_CENTER#, C12 STRAP_PLL_BYPASS#, C13 STRAP_LEGACY, C14 PROCMON, C15 MFG_TMC1, C16 MFG_TMC2
part B pins: A7 PEX_VDDD1_P0 (power), A9 PEX_VSSA_P0 (power), A10 VAUX_CORE (power), A12 PEX_VSSD0_P1 (power), A13 PEX_VDDD1_P1 (power), A15 PEX_VSSA_P1 (power), A18 VAUX_IO (power), A25 VSS (power), A26 VAUX_IO (power), A29 VDD_CORE (power), A30 VDD_IO (power), A31 PLL1_AVDD (power), A32 VSS (power), A37 VDD_CORE (power), A43 VDD_IO (power), A46 VDD_CORE (power), A50 VDD_CORE (power), A51 PEX_VSSA_P2 (power), A54 PEX_VSSD0_P2 (power), A56 VSS (power), A57 VAUX_CORE (power), A58 PEX_VSSA_P3 (power), A63 VSS (power), A64 VAUX_IO (power), B3 VDD_IO (power), B4 PEX_VSSD1_P0 (power), B5 PEX_VSSD0_P0 (power), B7 PEX_VDDD0_P0 (power), B8 PEX_VDDA_P0 (power), B9 PEX_VSSD1_P1 (power), B12 PEX_VDDD0_P1 (power), B13 PEX_VDDA_P1 (power), B17 VSS (power), B18 VSS (power), B19 VAUX_IO (power), B20 VSS (power), B26 VDD_CORE (power), B27 PLL1_AGND (power), B31 VDD_IO (power), B41 VDD_IO (power), B43 VDD_CORE (power), B44 PEX_VDDA_P2 (power), B45 PEX_VDDD0_P2 (power), B46 PEX_VDDD1_P2 (power), B48 PEX_VSSD1_P2 (power), B49 VAUX_CORE (power), B50 PEX_VDDA_P3 (power), B51 PEX_VDDD0_P3 (power), B52 PEX_VDDD1_P3 (power), B53 PEX_VSSD0_P3 (power), B54 PEX_VSSD1_P3 (power), GPAD THERMAL_AGND (power)

## IC-Realtek-ALC898
designator IC?, comment ALC898
HD_AUDIO_CODEC; Manufacturer Name: Realtek; Manufacturer Part No.: ALC898
footprint TSQFP50P900X900X160-48N (TSQFP, 48-Leads, Body 9.0x9.0mm (max), Pitch 0.50mm, IPC Medium Density)
part A pins: 1 DV_CORE, 3 GPIO_1, 4 DV_SS, 5 SDATA_OUT, 6 BIT_CLK, 7 DV_SS, 8 SDATA_IN, 9 DV_DD, 10 SYNC, 11 RESET#, 12 PC_BEEP, 18 CD_L, 19 CD_GND, 20 CD_R, 25 AV_DD, 26 AV_SS, 27 VREF_FILT, 33 NC, 38 AV_DD, 40 JDREF, 42 AV_SS, 47 S/PDIF_IN/GPIO_1
part B pins: 2 GPIO_0, 13 SENSE_A/SRC_B, 14 PORT_E_L, 15 PORT_E_R, 16 PORT_F_L, 17 PORT_F_R, 21 PORT_B_L, 22 PORT_B_R, 23 PORT_C_L, 24 PORT_C_R, 28 MIC_1_BIAS_L, 29 V_REF_C, 30 MIC_BIAS_F, 31 V_REF_E, 32 MIC_1_BIAS_R, 34 SENSE_B/SRC_A, 35 PORT_D_L, 36 PORT_D_R, 37 V_REF_A, 39 PORT_A_L, 41 PORT_A_R, 43 PORT_G_L, 44 PORT_G_R, 45 PORT_H_L, 46 PORT_H_R, 48 S/PDIF_OUT
part B text: MIC1_L; MIC1_R; LINE1_L; LINE1_R; FRONT_L; FRONT_R; LINE2_L; LINE2_R; MIC2_L; MIC2_R; CENTER; LOW FREQU; SIDE-L; SIDE-R; SURR_L; SURR_R

## IC-Semtech-SC189ASKTRT
designator IC?, comment SC189ASKTRT
SC189ASKTRT 1.5A Synchronous  Step Down Regulator; Manufacturer Name: Semtech; Manufacturer Part No.: SC189ASKTRT
footprint SOT95P279X142-5N
pins: 1 VIN (power), 2 GND (power), 3 EN (in), 4 VOUT (power), 5 LX (power)

## IC-Semtech-SC4215A
designator IC?  Part No.: SC4215A  (hidden comment: IC-Semtech-SC4215A)
LDO TO 2A; Manufacturer Name: Semtech
footprint SOIC127P650X175_HS-8N (SOIC, 8-Leads, Body 5.0x4.0mm (max), Pitch 1.27mm, IPC Medium Density)
pins: 1 NC, 2 EN, 3 V_IN, 4 NC, 5 NC, 6 V_OUT, 7 FB, 8 GND, 9 GND_PAD

## IC-SGMICRO-SGM2019
designator IC?, comment SGM2019-ADJYN5G/TR
SGMICRO LDO Input: 2.5V to 5.5V Output:1.2V to 5V; Manufacturer Name: SGMICRO; Manufacturer Part No.: SGM2019-ADJYN5G/TR
pins: 1 IN (power), 2 GND (power), 3 EN, 4 BP/FB, 5 OUT (power)

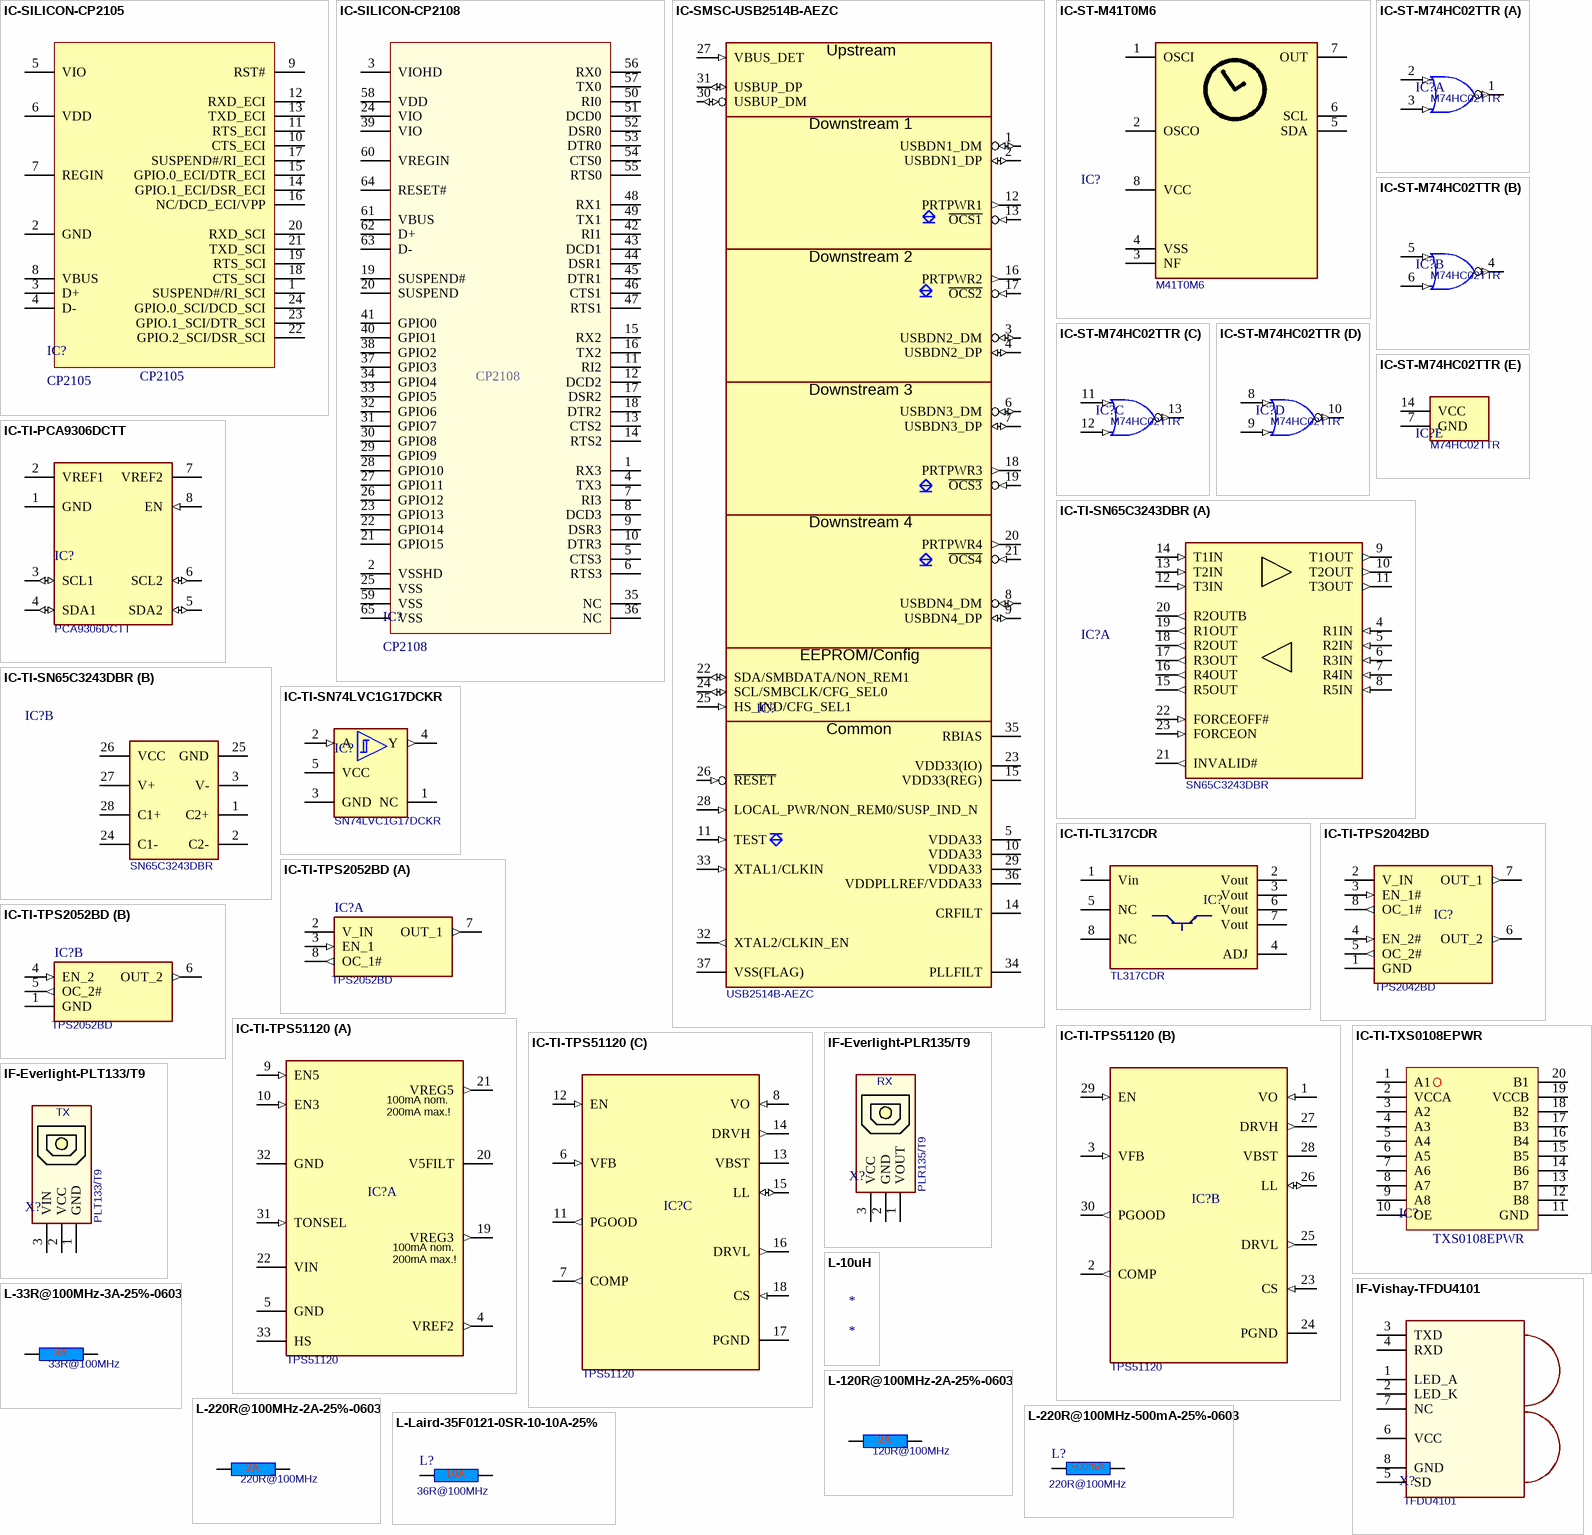
[diagram p17: symbols IC-SILICON-CP2105 to L-Laird-35F0121-0SR-10-10A-25%]

## IC-SILICON-CP2105
designator IC?, comment CP2105
Single-Chip USB To Dual UART Bridge; Manufacturer Name: SILICON LABS; Manucfacturer Part NO.: CP2105
pins: 1 SUSPEND#/RI_SCI, 2 GND (power), 3 D+, 4 D-, 5 VIO (power), 6 VDD (power), 7 REGIN, 8 VBUS, 9 RST#, 10 CTS_ECI, 11 RTS_ECI, 12 RXD_ECI, 13 TXD_ECI, 14 GPIO.1_ECI/DSR_ECI, 15 GPIO.0_ECI/DTR_ECI, 16 NC/DCD_ECI/VPP, 17 SUSPEND#/RI_ECI, 18 CTS_SCI, 19 RTS_SCI, 20 RXD_SCI, 21 TXD_SCI, 22 GPIO.2_SCI/DSR_SCI, 23 GPIO.1_SCI/DTR_SCI, 24 GPIO.0_SCI/DCD_SCI

## IC-SILICON-CP2108
designator IC?, comment CP2108
Single-Chip USB To Quad UART Bridge; Manufacturer Name: SILICON LABS; Manucfacturer Part NO.: CP2108
pins: 1 RX3, 2 VSSHD, 3 VIOHD (power), 4 TX3, 5 CTS3, 6 RTS3, 7 RI3, 8 DCD3, 9 DSR3, 10 DTR3, 11 RI2, 12 DCD2, 13 CTS2, 14 RTS2, 15 RX2, 16 TX2, 17 DSR2, 18 DTR2, 19 SUSPEND#, 20 SUSPEND, 21 GPIO15, 22 GPIO14, 23 GPIO13, 24 VIO (power), 25 VSS (power), 26 GPIO12, 27 GPIO11, 28 GPIO10, 29 GPIO9, 30 GPIO8, 31 GPIO7, 32 GPIO6, 33 GPIO5, 34 GPIO4, 35 NC, 36 NC, 37 GPIO3, 38 GPIO2, 39 VIO, 40 GPIO1, 41 GPIO0, 42 RI1, 43 DCD1, 44 DSR1, 45 DTR1, 46 CTS1, 47 RTS1, 48 RX1, 49 TX1, 50 RI0, 51 DCD0, 52 DSR0, 53 DTR0, 54 CTS0, 55 RTS0, 56 RX0, 57 TX0, 58 VDD, 59 VSS, 60 VREGIN, 61 VBUS, 62 D+, 63 D-, 64 RESET#, 65 VSS

## IC-SMSC-USB2514B-AEZC
designator IC?, comment Manufacturer Part No.: USB2514B-AEZC  (hidden comment: USB2514B)
4 Port USB HUB; Manufacturer Name: SMSC
footprint T_SMSC_USB2514B-AEZC (QFN, 36-Leads, Body 6x6mm, Pitch 0.5mm, IPC High Density)
pins: 1 USBDN1_DM (io), 2 USBDN1_DP (io), 3 USBDN2_DM (io), 4 USBDN2_DP (io), 5 VDDA33 (power), 6 USBDN3_DM (io), 7 USBDN3_DP (io), 8 USBDN4_DM (io), 9 USBDN4_DP (io), 10 VDDA33 (power), 11 TEST (in), 12 PRTPWR1 (out), 13 ~{OCS1} (in), 14 CRFILT (power), 15 VDD33(REG) (power), 16 PRTPWR2 (out), 17 ~{OCS2} (in), 18 PRTPWR3 (out), 19 ~{OCS3} (in), 20 PRTPWR4 (out), 21 ~{OCS4} (in), 22 SDA/SMBDATA/NON_REM1 (io), 23 VDD33(IO) (power), 24 SCL/SMBCLK/CFG_SEL0 (io), 25 HS_IND/CFG_SEL1 (in), 26 ~{RESET} (in), 27 VBUS_DET (in), 28 LOCAL_PWR/NON_REM0/SUSP_IND_N (in), 29 VDDA33 (power), 30 USBUP_DM (io), 31 USBUP_DP (io), 32 XTAL2/CLKIN_EN (out), 33 XTAL1/CLKIN (in), 34 PLLFILT (power), 35 RBIAS, 36 VDDPLLREF/VDDA33 (power), 37 VSS(FLAG) (power)
text: Upstream; Downstream 1; Downstream 2; Downstream 3; Downstream 4; EEPROM/Config; Common

## IC-ST-M41T0M6
designator IC?, comment M41T0M6
RTC M41T0M6; Manufacturer Name: ST; Manufacturer Part No.: M41T0M6
footprint SOIC127P600X173-8N
pins: 1 OSCI, 2 OSCO, 3 NF, 4 VSS, 5 SDA, 6 SCL, 7 OUT, 8 VCC

## IC-ST-M74HC02TTR
designator IC?, comment M74HC02TTR
Quad 2-Input NOR Gate; Manufacturer Name: ST Microelectronics; Manufacturer part No.: M74HC02TTR
footprint T_ST_M74HC02TTR (Shrink Small Outline; 14 Leads; Body Width 4.4 mm; Pitch 0.65 mm)
part A pins: 1 ~{O} (out), 2 A (in), 3 B (in)
part B pins: 4 ~{O} (out), 5 A (in), 6 B (in)
part C pins: 11 A (in), 12 B (in), 13 ~{O} (out)
part D pins: 8 A (in), 9 B (in), 10 ~{O} (out)
part E pins: 7 GND (power), 14 VCC (power)

## IC-TI-PCA9306DCTT
designator IC?, comment PCA9306DCTT
Dual Bidirectional I2C and SMBus Voltage-Level Translator; Manufacturer Name: Texas Instruments; Manufacturer Part No.: PCA9306DCTT
footprint T_TI_PCA9306DCTT (Dual Bidirectional I2C and SMBus Voltage-Level Translator)
pins: 1 GND (power), 2 VREF1 (power), 3 SCL1 (io), 4 SDA1 (io), 5 SDA2 (io), 6 SCL2 (io), 7 VREF2 (power), 8 EN (in)

## IC-TI-SN65C3243DBR
designator IC?, comment SN65C3243DBR
RS-232 Serial Transceiver; Manufacturer Name: Texas Instruments; Manufacturer Part No.: SN65C3243DBR
footprint SOP65P780X200-28N
part A pins: 4 R1IN (in), 5 R2IN (in), 6 R3IN (in), 7 R4IN (in), 8 R5IN (in), 9 T1OUT (out), 10 T2OUT (out), 11 T3OUT (out), 12 T3IN (in), 13 T2IN (in), 14 T1IN (in), 15 R5OUT (out), 16 R4OUT (out), 17 R3OUT (out), 18 R2OUT (out), 19 R1OUT (out), 20 R2OUTB (out), 21 INVALID# (out), 22 FORCEOFF# (in), 23 FORCEON (in)
part B pins: 1 C2+ (power), 2 C2- (power), 3 V- (power), 24 C1- (power), 25 GND (power), 26 VCC (power), 27 V+ (power), 28 C1+ (power)

## IC-TI-SN74LVC1G17DCKR
designator IC?, comment SN74LVC1G17DCKR
Single Schmitt-Trigger Buffer; Manufacturer Name: Texas Instruments; Manufacturer Part No.: SN74LVC1G17DCKR
footprint SOT65P210X110-5N
pins: 1 NC, 2 A (in), 3 GND (power), 4 Y (out), 5 VCC (power)

## IC-TI-TL317CDR
designator IC?, comment TL317CDR
TL317CDR LDO Regulator; Manufacturer Name: Texas Instruments; Manufacturer Part No.: TL317CDR
footprint SOIC127P600X173-8N
pins: 1 Vin, 2 Vout, 3 Vout, 4 ADJ, 5 NC, 6 Vout, 7 Vout, 8 NC

## IC-TI-TPS2042BD
designator IC?, comment TPS2042BD
Dual High Side Switch With OC_DET 500mA/CH; Manufacturer Name: Texas Instruments; Manufacturer Part No.: TPS2042BD
footprint SOIC127P600X173-8N
pins: 1 GND (power), 2 V_IN (power), 3 EN_1# (in), 4 EN_2# (in), 5 OC_2# (out), 6 OUT_2 (out), 7 OUT_1 (out), 8 OC_1# (out)

## IC-TI-TPS2052BD
designator IC?, comment TPS2052BD
Dual High Side Switch With OC_DET 500mA/CH; Manufacturer Name: Texas Instruments; Manufacturer Part No.: TPS2052BD
footprint SOIC127P600X173-8N
part A pins: 2 V_IN (power), 3 EN_1 (in), 7 OUT_1 (out), 8 OC_1# (out)
part B pins: 1 GND (power), 4 EN_2 (in), 5 OC_2# (out), 6 OUT_2 (out)

## IC-TI-TPS51120
designator IC?, comment TPS51120
Power Supply Controller; Manufacturer Name: Texas Instruments; Manufacturer Part No.: TPS51120
footprint QFN50P500X500X100-33N
part A pins: 4 VREF2 (out), 5 GND (power), 9 EN5 (in), 10 EN3 (in), 19 VREG3 (out), 20 V5FILT (power), 21 VREG5 (out), 22 VIN (power), 31 TONSEL (in), 32 GND (power), 33 HS
part B pins: 1 VO (in), 2 COMP (out), 3 VFB (in), 23 CS (in), 24 PGND (power), 25 DRVL (out), 26 LL (io), 27 DRVH (out), 28 VBST (power), 29 EN (in), 30 PGOOD (out)
part C pins: 6 VFB (in), 7 COMP (out), 8 VO (in), 11 PGOOD (out), 12 EN (in), 13 VBST, 14 DRVH (out), 15 LL (io), 16 DRVL (out), 17 PGND (power), 18 CS (in)
part A text: 100mA nom.; 200mA max.!

## IC-TI-TXS0108EPWR
designator IC?, comment TXS0108EPWR
8-Bit Bidirectional Voltage-level Translator; Manufacturer Name: Texas Instruments; Manufacturer Part No.: TXS0108EPWR
pins: 1 A1, 2 VCCA (power), 3 A2, 4 A3, 5 A4, 6 A5, 7 A6, 8 A7, 9 A8, 10 OE, 11 GND (power), 12 B8 (power), 13 B7, 14 B6, 15 B5, 16 B4, 17 B3, 18 B2, 19 VCCB, 20 B1

## IF-Everlight-PLR135/T9
designator X?, comment PLR135/T9
Photolink- Fiber Optic Transmitter; Manufacturer Name: Everlight; No. of ways: 3; Manufacturer Part No.: PLR135/T9
footprint T_EVERLIGHT_PLT133/T9 (USB Type B Connectors)
pins: 1 VOUT, 2 GND, 3 VCC
text: RX

## IF-Everlight-PLT133/T9
designator X?, comment PLT133/T9
Photolink- Fiber Optic Transmitter; Manufacturer Name: Everlight; No. of ways: 3; Manufacturer Part No.: PLT133/T9
footprint T_EVERLIGHT_PLT133/T9 (USB Type B Connectors)
pins: 1 GND, 2 VCC, 3 VIN
text: TX

## IF-Vishay-TFDU4101
designator X?  Manufacturer Part No.: TFDU4101
Vishay TFDU4101 Infrared Transceiver; Manufacturer Name: Vishay
footprint T_Vishay_TFDU4101 (Infrared Transceiver Module)
pins: 1 LED_A, 2 LED_K, 3 TXD, 4 RXD, 5 SD, 6 VCC, 7 NC, 8 GND

## L-10uH
designator *

## L-33R@100MHz-3A-25%-0603
designator L?, comment 33R@100MHz
33R@100MHz 3A EMI FILTER; Tolerance: 25%; Rating: 3A; Value: 33R@100MHz
footprint INDC1608X95N
pins: 1, 2

## L-120R@100MHz-2A-25%-0603
designator L?, comment 120R@100MHz
120R@100MHz 2A EMI FILTER; Tolerance: 25%; Rating: 2A; Value: 120R@100MHz
footprint INDC1608X95N
pins: 1, 2

## L-220R@100MHz-2A-25%-0603
designator L?, comment 220R@100MHz
220R@100MHz 2A EMI FILTER; Tolerance: 25%; Rating: 2A; Value: 220R@100MHz
footprint INDC1608X95N
pins: 1, 2

## L-220R@100MHz-500mA-25%-0603
designator L?, comment 220R@100MHz
220R@100MHz 500mA EMI FILTER; Tolerance: 25%; Rating: 500mA; Value: 220R@100MHz
footprint INDC1608X95N
pins: 1, 2

## L-Laird-35F0121-0SR-10-10A-25%
designator L?, comment 36R@100MHz
Power Supply FB 10A; Tolerance: 25%; Rating: 10A; Value: 36R@100MHz
footprint T_Laird_35F0121-0SR-10 (Power supply FB 10A)
pins: 1, 2

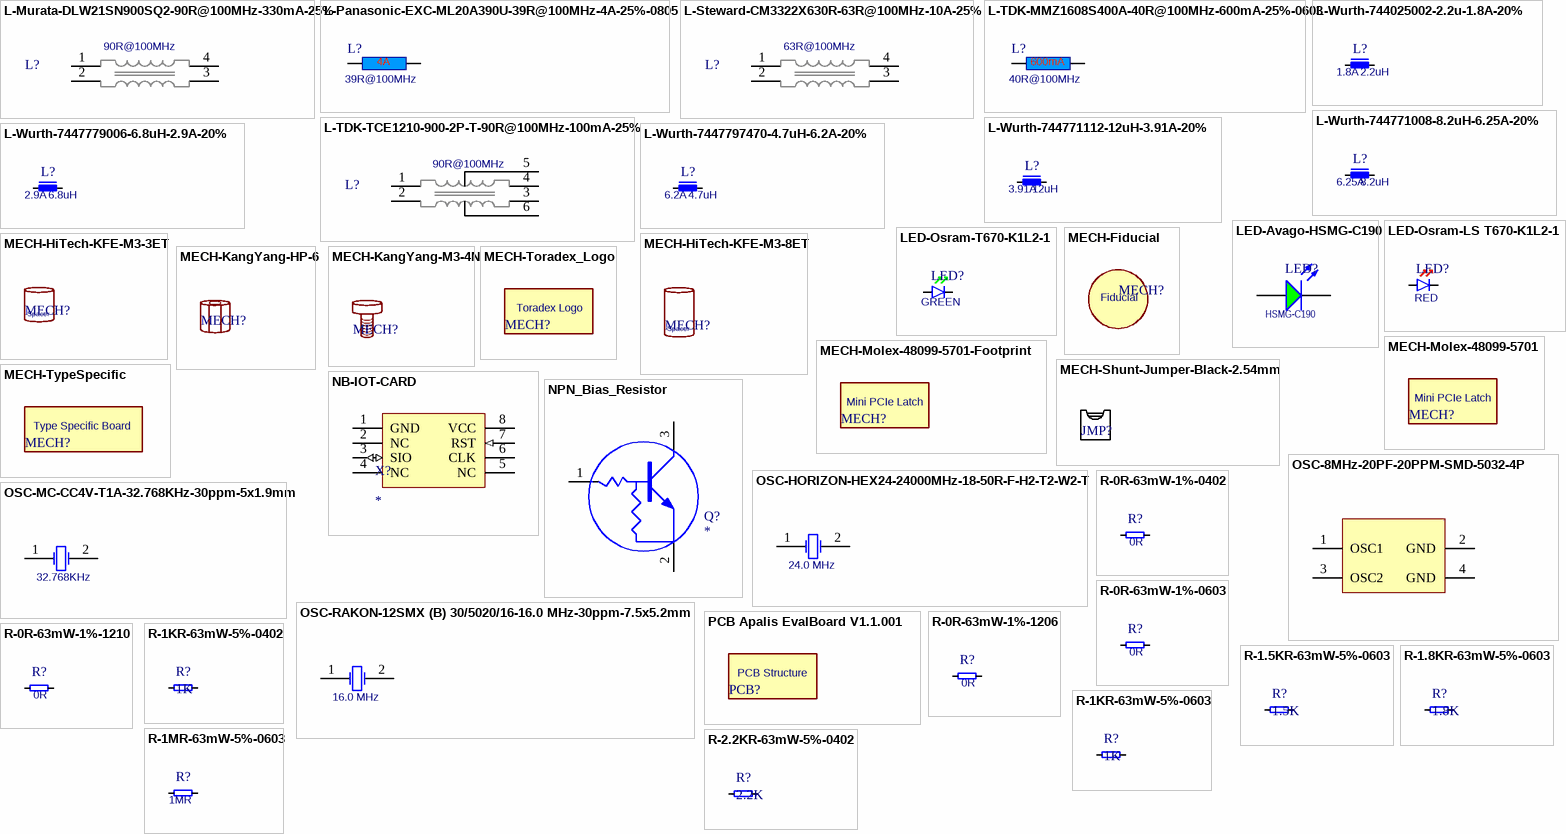
[diagram p18: symbols L-Murata-DLW21SN900SQ2-90R@100MHz-330mA-25% to R-2.2KR-63mW-5%-0402]

## L-Murata-DLW21SN900SQ2-90R@100MHz-330mA-25%
designator L?, comment 90R@100MHz
Common Mode Choke High Speed 90R 330mA; Manufacturer Name: Murata; Manufacturer Part No.: DLW21SN900SQ2; Tolerance: 25%; Rating: 330mA; Value: 90R@100MHz
footprint T_Murata_DLW21SN900SQ2 (Common Mode Choke)
pins: 1, 2, 3, 4

## L-Panasonic-EXC-ML20A390U-39R@100MHz-4A-25%-0805
designator L?, comment 39R@100MHz
39R@100MHz 4A EMI FILTER; Manufacturer Name: Panasonic; Manufacturer Name: EXC-ML20A390U; Tolerance: 25%; Rating: 4A; Value: 39R@100MHz
footprint INDC2013X130N
pins: 1, 2

## L-Steward-CM3322X630R-63R@100MHz-10A-25%
designator L?, comment 63R@100MHz
Common Mode Choke 63R 10A; Manufacturer Name: Steward; Manufacturer Part No.: CM3322X630R-10; Tolerance: 25%; Rating: 10A; Value: 63R@100MHz
footprint T_Steward_CM3322X630R-10 (Common Mode Choke)
pins: 1, 2, 3, 4

## L-TDK-MMZ1608S400A-40R@100MHz-600mA-25%-0603
designator L?, comment 40R@100MHz
40R@100MHz 600mA EMI FILTER; Manufacturer Part No.: MMZ1608S400A; Manufacturer Name: TDK; Tolerance: 25%; Rating: 600mA; Value: 40R@100MHz
footprint INDC1608X95N
pins: 1, 2

## L-TDK-TCE1210-900-2P-T-90R@100MHz-100mA-25%
designator L?, comment 90R@100MHz
Common Mode Choke Super Speed 90R 100mA; Manufacturer Name: TDK; Manufacturer Part No.: TCE1210-900-2P-T; Tolerance: 25%; Rating: 100mA; Value: 90R@100MHz
footprint T_TDK_TCE1210-900-2P-T (Common Mode Choke Super Speed)
pins: 1, 2, 3, 4, 5, 6

## L-Wurth-744025002-2.2u-1.8A-20%
designator L?, comment Rating: 1.8A  (hidden comment: 2.2uH)
Power Choke 744025002-2.2u-1.8A-20%; Manufacturer Name: Wurth; Tolerance: 20%; Manufacturer Part No.: 744025002; Value: 2.2uH
footprint T_WURTH_744025002 (POWER-CHOKE)
pins: 1, 2

## L-Wurth-744771008-8.2uH-6.25A-20%
designator L?, comment Rating: 6.25A  (hidden comment: 8.2uH)
Inductance 8.2uH 6.25A 20%; Manufacturer Name: Wurth; Manufacturer Part No.: 744771008; Tolerance: 20%; Value: 8.2uH
footprint T_INDM120120X80N
pins: 1, 2

## L-Wurth-744771112-12uH-3.91A-20%
designator L?, comment Rating: 3.91A  (hidden comment: 12uH)
Inductance 12uH 3.91A 20%; Manufacturer Name: Wurth; Manufacturer Part No.: 744771112; Tolerance: 20%; Value: 12uH
footprint T_INDM120120X80N
pins: 1, 2

## L-Wurth-7447779006-6.8uH-2.9A-20%
designator L?, comment Rating: 2.9A  (hidden comment: 6.8uH)
Inductance 6.8uH 2.9A 20%; Manufacturer Name: Wurth; Manufacturer Part No.: 7447779006; Tolerance: 20%; Value: 6.8uH
footprint T_INDM7373X45N
pins: 1, 2

## L-Wurth-7447797470-4.7uH-6.2A-20%
designator L?, comment Rating: 6.2A  (hidden comment: 4.7uH)
Inductance 4.7uH 6.2A 20%; Manufacturer Name: Wurth; Manufacturer Part No.: 7447797470; Tolerance: 20%; Value: 4.7uH
footprint T_INDM102102X45N
pins: 1, 2

## LED-Avago-HSMG-C190
designator LED?, comment Manufacturer Part No.: HSMG-C190  (hidden comment: LED)
Surface mount LED green 20mA; Manufacturer Name: Avago
footprint LEDC1608X80N
pins: 1 K, 2 A

## LED-Osram-LS T670-K1L2-1
designator LED?, comment Color: RED  (hidden comment: LS T670-K1L2-1)
LED red, Osram LS T670-K1L2-1; Manufacturer Part No.: LS T670-K1L2-1; Manufacturer Name: Osram
footprint T_Osram_T670_RED (LED-Osram-T670)
pins: A, K

## LED-Osram-T670-K1L2-1
designator LED?, comment Color: GREEN  (hidden comment: LG T670-K1L2-1)
LED green Osram LG T670-K1L2-1; Manufacturer Name: Osram; Manufacturer Part No.: LG T670-K1L2-1
footprint T_Osram_T670_GREEN (LED-Osram-T670)
pins: A, K

## MECH-Fiducial
designator MECH?  (value not drawn)  (no BOM)
Fiducial
footprint T_Fiducial (Fiducial)

## MECH-HiTech-KFE-M3-3ET
designator MECH?, comment KFE-M3-3ET  (value not drawn)
Spacer 3mm M3; Manufacturer Name: Hi-Tech Fasteners Inc; Manufacturer Part No.: KFE-M3-3ET
text: Spacer

## MECH-HiTech-KFE-M3-8ET
designator MECH?, comment KFE-M3-8ET  (value not drawn)
Spacer 8mm M3; Manufacturer Name: Hi-Tech Fasteners Inc; Manufacturer Part No.: KFE-M3-8ET
text: Spacer

## MECH-KangYang-HP-6
designator MECH?, comment HP-6  (value not drawn)
Plastic Hexagonal Spacer 6 mm/-/-; Manufacturer Name: Kang Yang; Manufacturer Part No.: HP-6

## MECH-KangYang-M3-4N
designator MECH?, comment M3-4N  (value not drawn)
Plastic Tapping Screw M3x4mm/-; Manufacturer Name: Kang Yang; Manufacturer Part No.: M3-4N

## MECH-Molex-48099-5701
designator MECH?, comment MECH-Mini-PCIe Latch  (value not drawn)
Mini-PCIe Latch; Manufacturer Name: Molex; Manufacturer Part No.: 48099-5701
footprint T_Molex_48099-5701_MECH (Mini PCI-E Latch, 3D Model Only)
text: Mini PCIe Latch

## MECH-Molex-48099-5701-Footprint
designator MECH?, comment MECH-Mini-PCIe Latch  (value not drawn)
Mini-PCIe Latch PCB Footprint; Manufacturer Name: Molex; Manufacturer Part No.: 48099-5701
footprint T_Molex_48099-5701 (Footprint not found)
text: Mini PCIe Latch

## MECH-Shunt-Jumper-Black-2.54mm
designator JMP?, comment Shunt Jumper  (value not drawn)
Manufacturer Name: JVE; Manufacturer Part No.: S1002-OPS60-01G

## MECH-Toradex_Logo
designator MECH?  (value not drawn)  (no BOM)
Toradex_Logo
footprint T_TORADEX_LOGO (Toradex Logo)
text: Toradex Logo

## MECH-TypeSpecific
designator MECH?  (value not drawn)  (no BOM)
PCB Structure
footprint T_TYPE_SPECIFIC (TYPE SPECIFIC MEZZANINE)
text: Type Specific Board

## NB-IOT-CARD
designator X?
NB-IOT CARD
pins: 1 GND (power), 2 NC, 3 SIO (io), 4 NC, 5 NC, 6 CLK, 7 RST (in), 8 VCC (power)

## NPN_Bias_Resistor
designator Q?
Bias Resistor Build-in NPN Transistor
footprint SOT-416FL (DTC043ZEBTL)
pins: 1 B, 2 E, 3 C

## OSC-8MHz-20PF-20PPM-SMD-5032-4P
designator OSC?, comment 8MHz  (value not drawn)
SMD Crystal 8MHz; Manufacturer Name: Shenzhen Yajingxin; Manufacturer Part No.: 5032-SMD8.000M20PF; Tolerance: 20ppm; Value: 8.0 MHz
pins: 1 OSC1, 2 GND (power), 3 OSC2, 4 GND

## OSC-HORIZON-HEX24-24000MHz-18-50R-F-H2-T2-W2-T
designator OSC?, comment value 24.0 MHz  (hidden comment: HEX24-24000MHz-18-50R-F-H2-T2-W2-T)
Quartz 24.0 MHz; Manufacturer Name: HORIZON; Tolerance: 30ppm; Manufacturer Part No.: HEX24-24000MHz-18-50R-F-H2-T2-W2-T
footprint T_HORIZON-HEX24 (OSC)
pins: 1 OSC1, 2 OSC2

## OSC-MC-CC4V-T1A-32.768KHz-30ppm-5x1.9mm
designator OSC?, comment value 32.768KHz  (hidden comment: CC4V-T1A)
Quartz 32.768kHz; Manufacturer Name: Micro Crystal; Tolerance: 30ppm; Manufacturer Part No.: CC4V-T1A
footprint T_MC_CC4V-T1A
pins: 1 OSC1, 2 OSC2

## OSC-RAKON-12SMX (B) 30/5020/16-16.0 MHz-30ppm-7.5x5.2mm
designator OSC?, comment value 16.0 MHz  (hidden comment: 12SMX (B) 30/5020/16)
Quartz 16.0 MHz; Manufacturer Name: RAKON; Tolerance: 30ppm; Manufacturer Part No.: 12SMX (B) 30/5020/16
footprint T_RAKON_12SMX (OSC)
pins: 1 OSC1, 2 OSC2

## PCB Apalis EvalBoard V1.1.001
designator PCB?  (value not drawn)
PCB Structure

## R-0R-63mW-1%-0402
designator R?, comment 0R
Resistor 0 ohm 63mW 1% 0402; Rating: 63mW; Tolerance: 1%; Value: 0R
footprint RESC1005X40N
pins: 1, 2

## R-0R-63mW-1%-0603
designator R?, comment 0R
Resistor 0 ohm 63mW 1% 0603; Rating: 63mW; Tolerance: 1%; Value: 0R
footprint T_RESC0603X30N
pins: 1, 2

## R-0R-63mW-1%-1206
designator R?, comment 0R
Resistor 0 ohm 63mW 1% 1206; Rating: 63mW; Tolerance: 1%; Value: 0R
footprint T_RESC3216X760N
pins: 1, 2

## R-0R-63mW-1%-1210
designator R?, comment 0R
Resistor 0 ohm 63mW 1% 1210; Rating: 63mW; Tolerance: 1%; Value: 0R
footprint T_RESC3225X30N
pins: 1, 2

## R-1.5KR-63mW-5%-0603
designator R?, comment 1.5K
Resistor 1.5 Kohm 63mW 5% 0603; Value: 1.5KR; Rating: 63mW; Tolerance: 5%
footprint T_RESC0603X30N
pins: 1, 2

## R-1.8KR-63mW-5%-0603
designator R?, comment 1.8K
Resistor 1.8 Kohm 63mW 5% 0603; Value: 1.8KR; Rating: 63mW; Tolerance: 5%
footprint T_RESC0603X30N
pins: 1, 2

## R-1KR-63mW-5%-0402
designator R?, comment 1K
Resistor 1 Kohm 63mW 5% 0402; Rating: 63mW; Tolerance: 5%; Value: 1K
footprint RESC1005X40N
pins: 1, 2

## R-1KR-63mW-5%-0603
designator R?, comment 1K
Resistor 1 Kohm 63mW 5% 0603; Rating: 63mW; Tolerance: 5%; Value: 1K
footprint T_RESC0603X30N
pins: 1, 2

## R-1MR-63mW-5%-0603
designator R?, comment 1MR
Resistor 1Mohm 63mW 5% 0603; Rating: 63mW; Tolerance: 5%; Value: 1MR
footprint T_RESC0603X30N
pins: 1, 2

## R-2.2KR-63mW-5%-0402
designator R?, comment 2.2K
Resistor 2.2Kohm 63mW 5% 0402; Value: 2.2KR; Rating: 63mW; Tolerance: 5%
footprint RESC1005X40N
pins: 1, 2

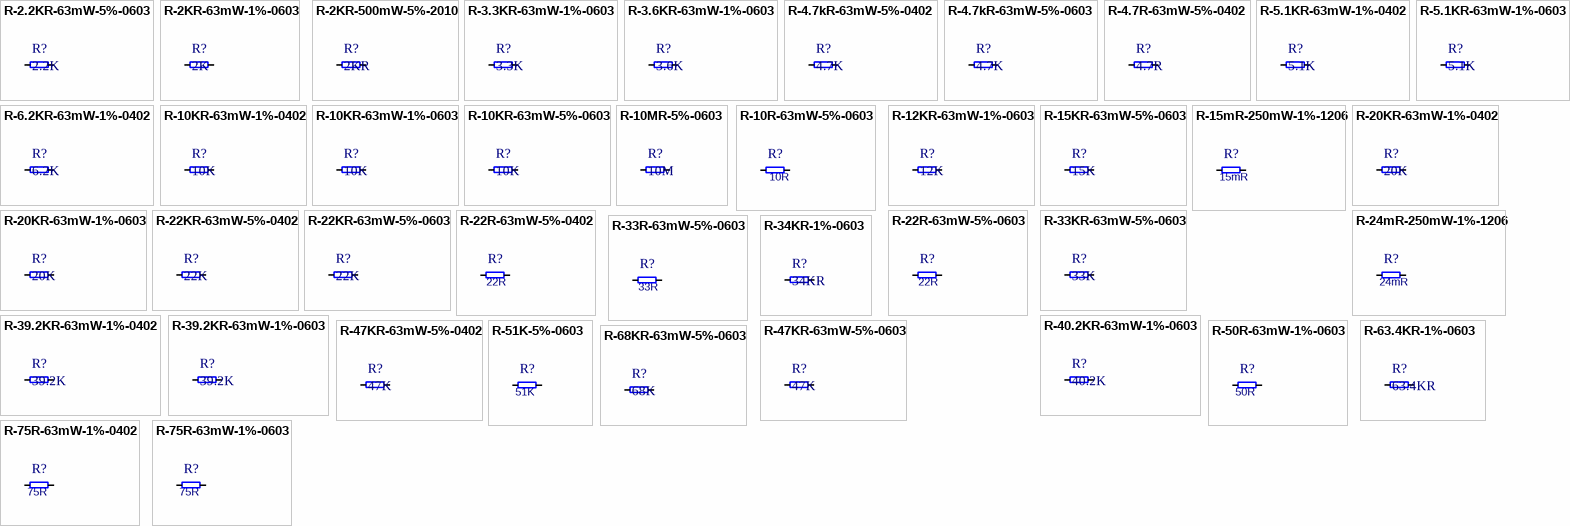
[diagram p19: symbols R-2.2KR-63mW-5%-0603 to R-75R-63mW-1%-0603]

## R-2.2KR-63mW-5%-0603
designator R?, comment 2.2K
Resistor 2.2Kohm 63mW 5% 0603; Value: 2.2KR; Rating: 63mW; Tolerance: 5%
footprint T_RESC0603X30N
pins: 1, 2

## R-2KR-63mW-1%-0603
designator R?, comment 2K
Resistor 2Kohm 63mW 1% 0603; Value: 2KR; Rating: 63mW; Tolerance: 1%
footprint T_RESC0603X30N
pins: 1, 2

## R-2KR-500mW-5%-2010
designator R?, comment 2KR
Resistor 2 Kohm 500mW 5% 2010; Rating: 63mW; Tolerance: 5%; Value: 2KR
footprint 2010
pins: 1, 2

## R-3.3KR-63mW-1%-0603
designator R?, comment 3.3K
Resistor 3.3 Kohm 63mW 1% 0603; Value: 3.3KR; Rating: 63mW; Tolerance: 1%
footprint T_RESC0603X30N
pins: 1, 2

## R-3.6KR-63mW-1%-0603
designator R?, comment 3.6K
Resistor 3.6 Kohm 63mW 1% 0603; Value: 3.6KR; Rating: 63mW; Tolerance: 1%
footprint T_RESC0603X30N
pins: 1, 2

## R-4.7kR-63mW-5%-0402
designator R?, comment 4.7K
Resistor 4.7 Kohm 63mW 5% 0402; Value: 4.7KR; Rating: 63mW; Tolerance: 5%
footprint RESC1005X40N
pins: 1, 2

## R-4.7kR-63mW-5%-0603
designator R?, comment 4.7K
Resistor 4.7 Kohm 63mW 5% 0603; Value: 4.7KR; Rating: 63mW; Tolerance: 5%
footprint t_RESC0603X30N
pins: 1, 2

## R-4.7R-63mW-5%-0402
designator R?, comment 4.7R
Resistor 4.7 ohm 63mW 5% 0402; Rating: 63mW; Tolerance: 5%; Value: 4.7R
footprint RESC1005X40N
pins: 1, 2

## R-5.1KR-63mW-1%-0402
designator R?, comment 5.1K
Resistor 5.1 Kohm 63mW 1% 0402; Value: 5.1KR; Rating: 63mW; Tolerance: 1%
footprint RESC1005X40N
pins: 1, 2

## R-5.1KR-63mW-1%-0603
designator R?, comment 5.1K
Resistor 5.1 Kohm 63mW 1% 0603; Value: 5.1KR; Rating: 63mW; Tolerance: 1%
footprint T_RESC0603X30N
pins: 1, 2

## R-6.2KR-63mW-1%-0402
designator R?, comment 6.2K
Resistor 6.2 Kohm 63mW 1% 0402; Value: 6.2KR; Rating: 63mW; Tolerance: 1%
footprint RESC1005X40N
pins: 1, 2

## R-10KR-63mW-1%-0402
designator R?, comment 10K
Resistor 10 Kohm 63mW 1% 0402; Value: 10KR; Rating: 63mW; Tolerance: 1%
footprint RESC1005X40N
pins: 1, 2

## R-10KR-63mW-1%-0603
designator R?, comment 10K
Resistor 10 Kohm 63mW 1% 0603; Value: 10KR; Rating: 63mW; Tolerance: 1%
footprint T_RESC0603X30N
pins: 1, 2

## R-10KR-63mW-5%-0603
designator R?, comment 10K
Resistor 10 Kohm 63mW 5% 0603; Value: 10KR; Rating: 63mW; Tolerance: 5%
footprint T_RESC0603X30N
pins: 1, 2

## R-10MR-5%-0603
designator R?, comment 10M
Resistor 10M ohm  5% 0603; Rating: 63mW; Tolerance: 5%; Value: 10M
footprint T_RESC0603X30N
pins: 1, 2

## R-10R-63mW-5%-0603
designator R?, comment 10R
Resistor 10 ohm 63mW 5% 0603; Rating: 63mW; Tolerance: 5%; Value: 10R
footprint T_RESC0603X30N
pins: 1, 2

## R-12KR-63mW-1%-0603
designator R?, comment 12K
Resistor 12 Kohm 63mW 1% 0603; Value: 12KR; Rating: 63mW; Tolerance: 1%
footprint T_RESC0603X30N
pins: 1, 2

## R-15KR-63mW-5%-0603
designator R?, comment 15K
Resistor 15 Kohm 63mW 5% 0603; Value: 15KR; Rating: 63mW; Tolerance: 5%
footprint T_RESC0603X30N
pins: 1, 2

## R-15mR-250mW-1%-1206
designator R?, comment 15mR
Resistor 15 mohm 250mW 1% 1206; Rating: 250mW; Tolerance: 1%; Value: 15mR
footprint RESC3316X76N
pins: 1, 2

## R-20KR-63mW-1%-0402
designator R?, comment 20K
Resistor 20 Kohm 63mW 1% 0402; Value: 20KR; Rating: 63mW; Tolerance: 1%
footprint RESC1005X40N
pins: 1, 2

## R-20KR-63mW-1%-0603
designator R?, comment 20K
Resistor 20 Kohm 63mW 1% 0603; Value: 20KR; Rating: 63mW; Tolerance: 1%
footprint T_RESC0603X30N
pins: 1, 2

## R-22KR-63mW-5%-0402
designator R?, comment 22K
Resistor 22 Kohm 63mW 5% 0402; Value: 22KR; Rating: 63mW; Tolerance: 5%
footprint RESC1005X40N
pins: 1, 2

## R-22KR-63mW-5%-0603
designator R?, comment 22K
Resistor 22 Kohm 63mW 5% 0603; Value: 22KR; Rating: 63mW; Tolerance: 5%
footprint T_RESC0603X30N
pins: 1, 2

## R-22R-63mW-5%-0402
designator R?, comment 22R
Resistor 22 ohm 63mW 5% 0402; Rating: 63mW; Tolerance: 5%; Value: 22R
footprint RESC1005X40N
pins: 1, 2

## R-22R-63mW-5%-0603
designator R?, comment 22R
Resistor 22 ohm 63mW 5% 0603; Rating: 63mW; Tolerance: 5%; Value: 22R
footprint T_RESC0603X30N
pins: 1, 2

## R-24mR-250mW-1%-1206
designator R?, comment 24mR
Resistor 24 mohm 250mW 1% 1206; Rating: 250mW; Tolerance: 1%; Value: 24mR
footprint RESC3316X76N
pins: 1, 2

## R-33KR-63mW-5%-0603
designator R?, comment 33K
Resistor 33 Kohm 63mW 5% 0603; Value: 33KR; Rating: 63mW; Tolerance: 5%
footprint T_RESC0603X30N
pins: 1, 2

## R-33R-63mW-5%-0603
designator R?, comment 33R
Resistor 33 ohm 63mW 5% 0603; Rating: 63mW; Tolerance: 5%; Value: 33R
footprint T_RESC0603X30N
pins: 1, 2

## R-34KR-1%-0603
designator R?, comment 34KR
Resistor 34 Kohm  1% 0603; Rating: 63mW; Tolerance: 1%; Value: 34KR
footprint T_RESC0603X30N
pins: 1, 2

## R-39.2KR-63mW-1%-0402
designator R?, comment 39.2K
Resistor 39.2 Kohm 63mW 1% 0402; Value: 39.2KR; Rating: 63mW; Tolerance: 1%
footprint RESC1005X40N
pins: 1, 2

## R-39.2KR-63mW-1%-0603
designator R?, comment 39.2K
Resistor 39.2 Kohm 63mW 1% 0603; Value: 39.2KR; Rating: 63mW; Tolerance: 1%
footprint T_RESC0603X30N
pins: 1, 2

## R-40.2KR-63mW-1%-0603
designator R?, comment 40.2K
Resistor 40.2 Kohm 63mW 1% 0603; Value: 40.2KR; Rating: 63mW; Tolerance: 1%
footprint T_RESC0603X30N
pins: 1, 2

## R-47KR-63mW-5%-0402
designator R?, comment 47K
Resistor 47 Kohm 63mW 5% 0402; Value: 47KR; Rating: 63mW; Tolerance: 5%
footprint RESC1005X40N
pins: 1, 2

## R-47KR-63mW-5%-0603
designator R?, comment 47K
Resistor 47 Kohm 63mW 5% 0603; Value: 47KR; Rating: 63mW; Tolerance: 5%
footprint T_RESC0603X30N
pins: 1, 2

## R-50R-63mW-1%-0603
designator R?, comment 50R
Resistor 50 ohm 63mW 1% 0603; Rating: 63mW; Tolerance: 1%; Value: 50R
footprint T_RESC0603X30N
pins: 1, 2

## R-51K-5%-0603
designator R?, comment 51K
Resistor 51K ohm  5% 0603; Rating: 63mW; Tolerance: 5%; Value: 51K
footprint T_RESC0603X30N
pins: 1, 2

## R-63.4KR-1%-0603
designator R?, comment 63.4KR
Resistor 63.4 Kohm  1% 0603; Rating: 63mW; Tolerance: 1%; Value: 63.4KR
footprint T_RESC0603X30N
pins: 1, 2

## R-68KR-63mW-5%-0603
designator R?, comment 68K
Resistor 68 Kohm 63mW 5% 0603; Value: 68KR; Rating: 63mW; Tolerance: 5%
footprint T_RESC0603X30N
pins: 1, 2

## R-75R-63mW-1%-0402
designator R?, comment 75R
Resistor 75 ohm 63mW 1% 0402; Rating: 63mW; Tolerance: 1%; Value: 75R
footprint RESC1005X40N
pins: 1, 2

## R-75R-63mW-1%-0603
designator R?, comment 75R
Resistor 75 ohm 63mW 1% 0603; Rating: 63mW; Tolerance: 1%; Value: 75R
footprint T_RESC0603X30N
pins: 1, 2

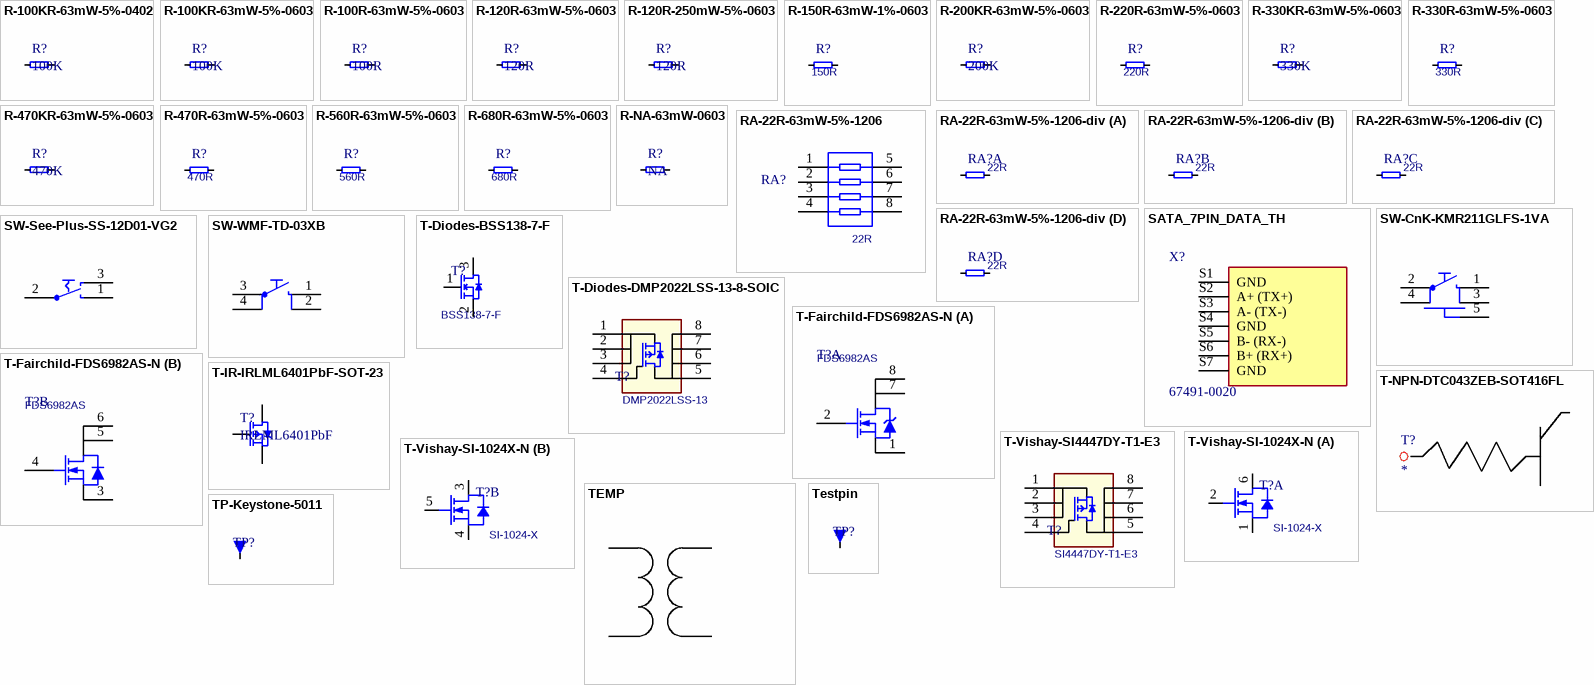
[diagram p20: symbols R-100KR-63mW-5%-0402 to TP-Keystone-5011]

## R-100KR-63mW-5%-0402
designator R?, comment 100K
Resistor 100 Kohm 63mW 5% 0402; Value: 100KR; Rating: 63mW; Tolerance: 5%
footprint RESC1005X40N
pins: 1, 2

## R-100KR-63mW-5%-0603
designator R?, comment 100K
Resistor 100 Kohm 63mW 5% 0603; Value: 100KR; Rating: 63mW; Tolerance: 5%
footprint T_RESC0603X30N
pins: 1, 2

## R-100R-63mW-5%-0603
designator R?, comment 100R
Resistor 100 ohm 63mW 5% 0603; Rating: 63mW; Tolerance: 5%; Value: 100R
footprint T_RESC0603X30N
pins: 1, 2

## R-120R-63mW-5%-0603
designator R?, comment 120R
Resistor 120 ohm 63mW 5% 0603; Rating: 63mW; Tolerance: 5%; Value: 120R
footprint T_RESC0603X30N
pins: 1, 2

## R-120R-250mW-5%-0603
designator R?, comment 120R
Resistor 120 ohm 250mW 5% 0603; Rating: 250mW; Tolerance: 5%; Value: 120R
footprint T_RESC0603X30N
pins: 1, 2

## R-150R-63mW-1%-0603
designator R?, comment 150R
Resistor 150 ohm 63mW 1% 0603; Rating: 63mW; Tolerance: 1%; Value: 150R
footprint T_RESC0603X30N
pins: 1, 2

## R-200KR-63mW-5%-0603
designator R?, comment 200K
Resistor 200 Kohm 63mW 5% 0603; Value: 200KR; Rating: 63mW; Tolerance: 5%
footprint T_RESC0603X30N
pins: 1, 2

## R-220R-63mW-5%-0603
designator R?, comment 220R
Resistor 220 ohm 63mW 5% 0603; Rating: 63mW; Tolerance: 5%; Value: 220R
footprint T_RESC0603X30N
pins: 1, 2

## R-330KR-63mW-5%-0603
designator R?, comment 330K
Resistor 330 Kohm 63mW 5% 0603; Value: 330KR; Rating: 63mW; Tolerance: 5%
footprint T_RESC0603X30N
pins: 1, 2

## R-330R-63mW-5%-0603
designator R?, comment 330R
Resistor 330 ohm 63mW 5% 0603; Rating: 63mW; Tolerance: 5%; Value: 330R
footprint T_RESC0603X30N
pins: 1, 2

## R-470KR-63mW-5%-0603
designator R?, comment 470K
Resistor 470 Kohm 63mW 5% 0603; Value: 470KR; Rating: 63mW; Tolerance: 5%
footprint T_RESC0603X30N
pins: 1, 2

## R-470R-63mW-5%-0603
designator R?, comment 470R
Resistor 470 ohm 63mW 5% 0603; Rating: 63mW; Tolerance: 5%; Value: 470R
footprint T_RESC0603X30N
pins: 1, 2

## R-560R-63mW-5%-0603
designator R?, comment 560R
Resistor 560 ohm 63mW 5% 0603; Rating: 63mW; Tolerance: 5%; Value: 560R
footprint T_RESC0603X30N
pins: 1, 2

## R-680R-63mW-5%-0603
designator R?, comment 680R
Resistor 680 ohm 63mW 5% 0603; Rating: 63mW; Tolerance: 5%; Value: 680R
footprint T_RESC0603X30N
pins: 1, 2

## R-NA-63mW-0603
designator R?, comment NA
Resistor NA 63mW  0603; Tolerance: 1%; Rating: 63mW; Value: NA
footprint T_RESC0603X30N
pins: 1, 2

## RA-22R-63mW-5%-1206
designator RA?, comment 22R
Resistor array 4 x 22R; Rating: 63mW; Tolerance: 5%; Value: 22R
footprint T_Resistor_Array_X4 (Resistor Array 0.8mm)
pins: 1, 2, 3, 4, 5, 6, 7, 8

## RA-22R-63mW-5%-1206-div
designator RA?, comment 22R
Resistor Array 22 R 63mW 5% 1206; Tolerance: 5%; Power Dissipation: 63mW; Value: 22R
footprint T_Resistor_Array_X4 (Resistor Array 0.8mm)
part A pins: 1, 5
part B pins: 2, 6
part C pins: 3, 7
part D pins: 4, 8

## SATA_7PIN_DATA_TH
designator X?, comment 67491-0020
SATA RA  TH; MANUFACTURER: Molex; PART: 67491-0020; DIGIKEY: WM19148-ND
footprint T_Molex_67491-0020 (SATA connector TH)
pins: S1 GND (power), S2 A+ (TX+), S3 A- (TX-), S4 GND (power), S5 B- (RX-), S6 B+ (RX+), S7 GND (power)